# Altium integrated library Altera FLEX 10K.IntLib: 292 symbols (part 16 of 37)
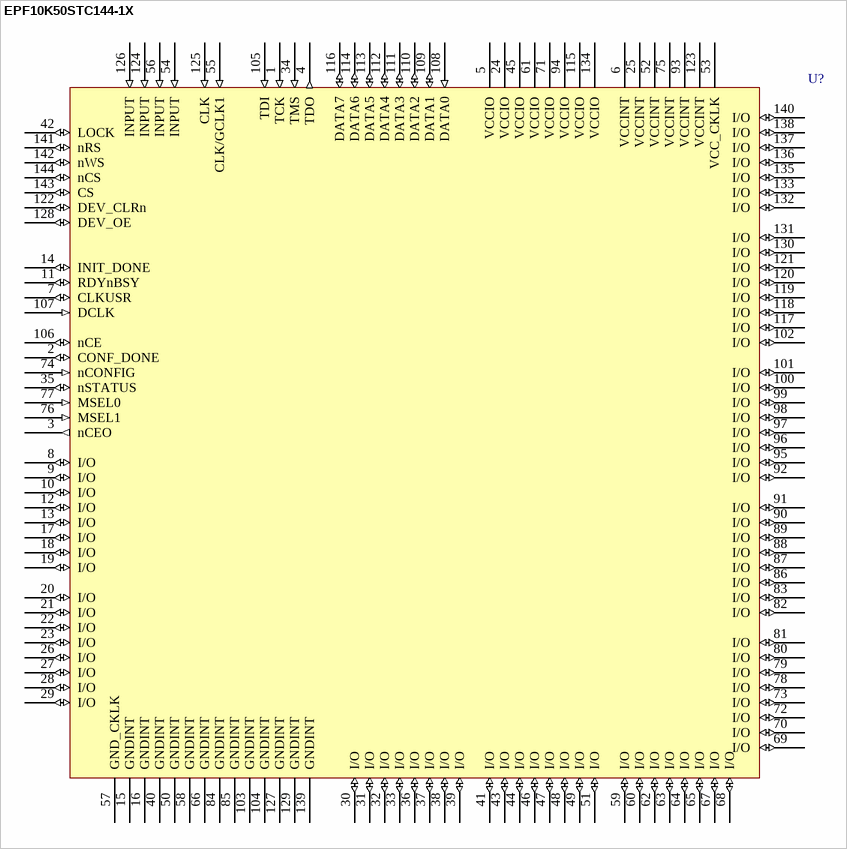
[diagram p413: symbol EPF10K50STC144-1X]

## EPF10K50STC144-1X
designator U?
FLEX EPF10K50S 2.5V Embedded PLD, 102 User IO Pins, 144-Pin TQFP, Speed Grade 1, Commercial Grade; Published: 17-Jul-2002; LatestRevisionDate: 13-Apr-2006; LatestRevisionNote: IPC-7351 Footprint Added.; DatasheetVersion: Jan-2001; PackageVersion: ver15.4, Dec-2008; PackageReference: TQFP144; Publisher: Altium Limited; PackageDescription: 144-Pin Plastic Thin Quad Flat Pack (TQFP144) - Wire Bond; Code_JEDEC: MS-026-BFB; ComponentLink1Description: Manufacturer Link; ComponentLink1URL: http://www.altera.com/products/devices/flex10k/f10-index.html; ComponentLink2Description: Datasheet; ComponentLink2URL: http://www.altera.com/literature/ds/dsf10ke.pdf
footprint TQFP144_N (Thin QFP, 144-Leads, Body 20x20mm, Pitch 0.5mm, IPC Medium Density)
footprint TQFP144_L (Thin QFP, 144-Leads, Body 20x20mm, Pitch 0.5mm, IPC High Density)
footprint TQFP144_M (Thin QFP, 144-Leads, Body 20x20mm, Pitch 0.5mm, IPC Low Density)
3D model EPF10K50S-TQFP144 (144-Pin Plastic Thin Quad Flat Pack (TQFP144) - Wire Bond)
pins: 1 TCK (in), 2 CONF_DONE (io), 3 nCEO (out), 4 TDO (out), 5 VCCIO (power), 6 VCCINT (power), 7 CLKUSR (io), 8 I/O (io), 9 I/O (io), 10 I/O (io), 11 RDYnBSY (io), 12 I/O (io), 13 I/O (io), 14 INIT_DONE (io), 15 GNDINT (power), 16 GNDINT (power), 17 I/O (io), 18 I/O (io), 19 I/O (io), 20 I/O (io), 21 I/O (io), 22 I/O (io), 23 I/O (io), 24 VCCIO (power), 25 VCCINT (power), 26 I/O (io), 27 I/O (io), 28 I/O (io), 29 I/O (io), 30 I/O (io), 31 I/O (io), 32 I/O (io), 33 I/O (io), 34 TMS (in), 35 nSTATUS (io), 36 I/O (io), 37 I/O (io), 38 I/O (io), 39 I/O (io), 40 GNDINT (power), 41 I/O (io), 42 LOCK (io), 43 I/O (io), 44 I/O (io), 45 VCCIO (power), 46 I/O (io), 47 I/O (io), 48 I/O (io), 49 I/O (io), 50 GNDINT (power), 51 I/O (io), 52 VCCINT (power), 53 VCC_CKLK (power), 54 INPUT (in), 55 CLK/GCLK1 (in), 56 INPUT (in), 57 GND_CKLK (power), 58 GNDINT (power), 59 I/O (io), 60 I/O (io), 61 VCCIO (power), 62 I/O (io), 63 I/O (io), 64 I/O (io), 65 I/O (io), 66 GNDINT (power), 67 I/O (io), 68 I/O (io), 69 I/O (io), 70 I/O (io), 71 VCCIO (power), 72 I/O (io), 73 I/O (io), 74 nCONFIG (in), 75 VCCINT (power), 76 MSEL1 (in), 77 MSEL0 (in), 78 I/O (io), 79 I/O (io), 80 I/O (io), 81 I/O (io), 82 I/O (io), 83 I/O (io), 84 GNDINT (power), 85 GNDINT (power), 86 I/O (io), 87 I/O (io), 88 I/O (io), 89 I/O (io), 90 I/O (io), 91 I/O (io), 92 I/O (io), 93 VCCINT (power), 94 VCCIO (power), 95 I/O (io), 96 I/O (io), 97 I/O (io), 98 I/O (io), 99 I/O (io), 100 I/O (io), 101 I/O (io), 102 I/O (io), 103 GNDINT (power), 104 GNDINT (power), 105 TDI (in), 106 nCE (io), 107 DCLK (in), 108 DATA0 (in), 109 DATA1 (io), 110 DATA2 (io), 111 DATA3 (io), 112 DATA4 (io), 113 DATA5 (io), 114 DATA6 (io), 115 VCCIO (power), 116 DATA7 (io), 117 I/O (io), 118 I/O (io), 119 I/O (io), 120 I/O (io), 121 I/O (io), 122 DEV_CLRn (io), 123 VCCINT (power), 124 INPUT (in), 125 CLK (in), 126 INPUT (in), 127 GNDINT (power), 128 DEV_OE (io), 129 GNDINT (power), 130 I/O (io), 131 I/O (io), 132 I/O (io), 133 I/O (io), 134 VCCIO (power), 135 I/O (io), 136 I/O (io), 137 I/O (io), 138 I/O (io), 139 GNDINT (power), 140 I/O (io), 141 nRS (io), 142 nWS (io), 143 CS (io), 144 nCS (io)

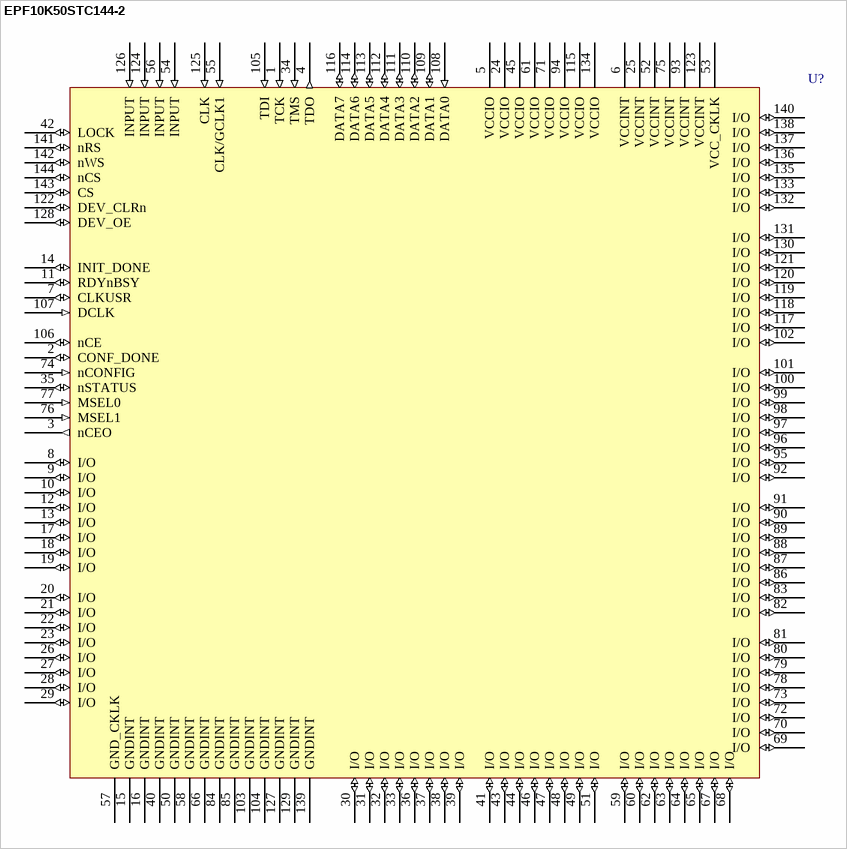
[diagram p156: symbol EPF10K50STC144-2]

## EPF10K50STC144-2
designator U?
FLEX EPF10K50S 2.5V Embedded PLD, 102 User IO Pins, 144-Pin TQFP, Speed Grade 2, Commercial Grade; Published: 17-Jul-2002; LatestRevisionDate: 13-Apr-2006; LatestRevisionNote: IPC-7351 Footprint Added.; DatasheetVersion: Jan-2001; PackageVersion: ver15.4, Dec-2008; PackageReference: TQFP144; Publisher: Altium Limited; PackageDescription: 144-Pin Plastic Thin Quad Flat Pack (TQFP144) - Wire Bond; Code_JEDEC: MS-026-BFB; ComponentLink1Description: Manufacturer Link; ComponentLink1URL: http://www.altera.com/products/devices/flex10k/f10-index.html; ComponentLink2Description: Datasheet; ComponentLink2URL: http://www.altera.com/literature/ds/dsf10ke.pdf
footprint TQFP144_N (Thin QFP, 144-Leads, Body 20x20mm, Pitch 0.5mm, IPC Medium Density)
footprint TQFP144_L (Thin QFP, 144-Leads, Body 20x20mm, Pitch 0.5mm, IPC High Density)
footprint TQFP144_M (Thin QFP, 144-Leads, Body 20x20mm, Pitch 0.5mm, IPC Low Density)
3D model EPF10K50S-TQFP144 (144-Pin Plastic Thin Quad Flat Pack (TQFP144) - Wire Bond)
pins: 1 TCK (in), 2 CONF_DONE (io), 3 nCEO (out), 4 TDO (out), 5 VCCIO (power), 6 VCCINT (power), 7 CLKUSR (io), 8 I/O (io), 9 I/O (io), 10 I/O (io), 11 RDYnBSY (io), 12 I/O (io), 13 I/O (io), 14 INIT_DONE (io), 15 GNDINT (power), 16 GNDINT (power), 17 I/O (io), 18 I/O (io), 19 I/O (io), 20 I/O (io), 21 I/O (io), 22 I/O (io), 23 I/O (io), 24 VCCIO (power), 25 VCCINT (power), 26 I/O (io), 27 I/O (io), 28 I/O (io), 29 I/O (io), 30 I/O (io), 31 I/O (io), 32 I/O (io), 33 I/O (io), 34 TMS (in), 35 nSTATUS (io), 36 I/O (io), 37 I/O (io), 38 I/O (io), 39 I/O (io), 40 GNDINT (power), 41 I/O (io), 42 LOCK (io), 43 I/O (io), 44 I/O (io), 45 VCCIO (power), 46 I/O (io), 47 I/O (io), 48 I/O (io), 49 I/O (io), 50 GNDINT (power), 51 I/O (io), 52 VCCINT (power), 53 VCC_CKLK (power), 54 INPUT (in), 55 CLK/GCLK1 (in), 56 INPUT (in), 57 GND_CKLK (power), 58 GNDINT (power), 59 I/O (io), 60 I/O (io), 61 VCCIO (power), 62 I/O (io), 63 I/O (io), 64 I/O (io), 65 I/O (io), 66 GNDINT (power), 67 I/O (io), 68 I/O (io), 69 I/O (io), 70 I/O (io), 71 VCCIO (power), 72 I/O (io), 73 I/O (io), 74 nCONFIG (in), 75 VCCINT (power), 76 MSEL1 (in), 77 MSEL0 (in), 78 I/O (io), 79 I/O (io), 80 I/O (io), 81 I/O (io), 82 I/O (io), 83 I/O (io), 84 GNDINT (power), 85 GNDINT (power), 86 I/O (io), 87 I/O (io), 88 I/O (io), 89 I/O (io), 90 I/O (io), 91 I/O (io), 92 I/O (io), 93 VCCINT (power), 94 VCCIO (power), 95 I/O (io), 96 I/O (io), 97 I/O (io), 98 I/O (io), 99 I/O (io), 100 I/O (io), 101 I/O (io), 102 I/O (io), 103 GNDINT (power), 104 GNDINT (power), 105 TDI (in), 106 nCE (io), 107 DCLK (in), 108 DATA0 (in), 109 DATA1 (io), 110 DATA2 (io), 111 DATA3 (io), 112 DATA4 (io), 113 DATA5 (io), 114 DATA6 (io), 115 VCCIO (power), 116 DATA7 (io), 117 I/O (io), 118 I/O (io), 119 I/O (io), 120 I/O (io), 121 I/O (io), 122 DEV_CLRn (io), 123 VCCINT (power), 124 INPUT (in), 125 CLK (in), 126 INPUT (in), 127 GNDINT (power), 128 DEV_OE (io), 129 GNDINT (power), 130 I/O (io), 131 I/O (io), 132 I/O (io), 133 I/O (io), 134 VCCIO (power), 135 I/O (io), 136 I/O (io), 137 I/O (io), 138 I/O (io), 139 GNDINT (power), 140 I/O (io), 141 nRS (io), 142 nWS (io), 143 CS (io), 144 nCS (io)

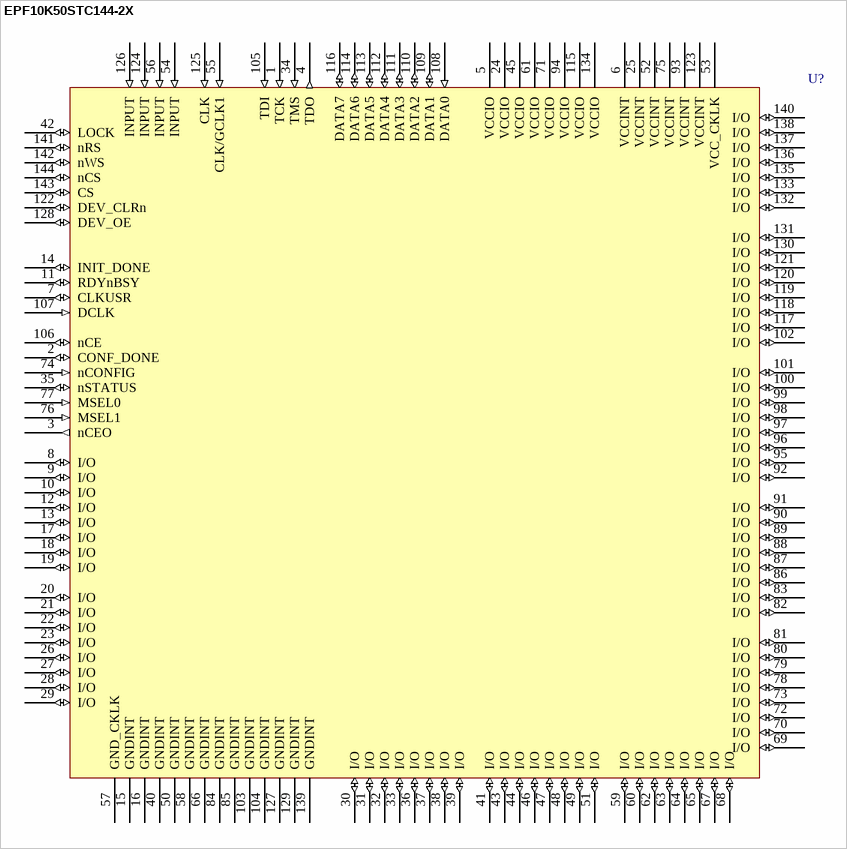
[diagram p157: symbol EPF10K50STC144-2X]

## EPF10K50STC144-2X
designator U?
FLEX EPF10K50S 2.5V Embedded PLD, 102 User IO Pins, 144-Pin TQFP, Speed Grade 2, Commercial Grade; Published: 17-Jul-2002; LatestRevisionDate: 13-Apr-2006; LatestRevisionNote: IPC-7351 Footprint Added.; DatasheetVersion: Jan-2001; PackageVersion: ver15.4, Dec-2008; PackageReference: TQFP144; Publisher: Altium Limited; PackageDescription: 144-Pin Plastic Thin Quad Flat Pack (TQFP144) - Wire Bond; Code_JEDEC: MS-026-BFB; ComponentLink1Description: Manufacturer Link; ComponentLink1URL: http://www.altera.com/products/devices/flex10k/f10-index.html; ComponentLink2Description: Datasheet; ComponentLink2URL: http://www.altera.com/literature/ds/dsf10ke.pdf
footprint TQFP144_N (Thin QFP, 144-Leads, Body 20x20mm, Pitch 0.5mm, IPC Medium Density)
footprint TQFP144_L (Thin QFP, 144-Leads, Body 20x20mm, Pitch 0.5mm, IPC High Density)
footprint TQFP144_M (Thin QFP, 144-Leads, Body 20x20mm, Pitch 0.5mm, IPC Low Density)
3D model EPF10K50S-TQFP144 (144-Pin Plastic Thin Quad Flat Pack (TQFP144) - Wire Bond)
pins: 1 TCK (in), 2 CONF_DONE (io), 3 nCEO (out), 4 TDO (out), 5 VCCIO (power), 6 VCCINT (power), 7 CLKUSR (io), 8 I/O (io), 9 I/O (io), 10 I/O (io), 11 RDYnBSY (io), 12 I/O (io), 13 I/O (io), 14 INIT_DONE (io), 15 GNDINT (power), 16 GNDINT (power), 17 I/O (io), 18 I/O (io), 19 I/O (io), 20 I/O (io), 21 I/O (io), 22 I/O (io), 23 I/O (io), 24 VCCIO (power), 25 VCCINT (power), 26 I/O (io), 27 I/O (io), 28 I/O (io), 29 I/O (io), 30 I/O (io), 31 I/O (io), 32 I/O (io), 33 I/O (io), 34 TMS (in), 35 nSTATUS (io), 36 I/O (io), 37 I/O (io), 38 I/O (io), 39 I/O (io), 40 GNDINT (power), 41 I/O (io), 42 LOCK (io), 43 I/O (io), 44 I/O (io), 45 VCCIO (power), 46 I/O (io), 47 I/O (io), 48 I/O (io), 49 I/O (io), 50 GNDINT (power), 51 I/O (io), 52 VCCINT (power), 53 VCC_CKLK (power), 54 INPUT (in), 55 CLK/GCLK1 (in), 56 INPUT (in), 57 GND_CKLK (power), 58 GNDINT (power), 59 I/O (io), 60 I/O (io), 61 VCCIO (power), 62 I/O (io), 63 I/O (io), 64 I/O (io), 65 I/O (io), 66 GNDINT (power), 67 I/O (io), 68 I/O (io), 69 I/O (io), 70 I/O (io), 71 VCCIO (power), 72 I/O (io), 73 I/O (io), 74 nCONFIG (in), 75 VCCINT (power), 76 MSEL1 (in), 77 MSEL0 (in), 78 I/O (io), 79 I/O (io), 80 I/O (io), 81 I/O (io), 82 I/O (io), 83 I/O (io), 84 GNDINT (power), 85 GNDINT (power), 86 I/O (io), 87 I/O (io), 88 I/O (io), 89 I/O (io), 90 I/O (io), 91 I/O (io), 92 I/O (io), 93 VCCINT (power), 94 VCCIO (power), 95 I/O (io), 96 I/O (io), 97 I/O (io), 98 I/O (io), 99 I/O (io), 100 I/O (io), 101 I/O (io), 102 I/O (io), 103 GNDINT (power), 104 GNDINT (power), 105 TDI (in), 106 nCE (io), 107 DCLK (in), 108 DATA0 (in), 109 DATA1 (io), 110 DATA2 (io), 111 DATA3 (io), 112 DATA4 (io), 113 DATA5 (io), 114 DATA6 (io), 115 VCCIO (power), 116 DATA7 (io), 117 I/O (io), 118 I/O (io), 119 I/O (io), 120 I/O (io), 121 I/O (io), 122 DEV_CLRn (io), 123 VCCINT (power), 124 INPUT (in), 125 CLK (in), 126 INPUT (in), 127 GNDINT (power), 128 DEV_OE (io), 129 GNDINT (power), 130 I/O (io), 131 I/O (io), 132 I/O (io), 133 I/O (io), 134 VCCIO (power), 135 I/O (io), 136 I/O (io), 137 I/O (io), 138 I/O (io), 139 GNDINT (power), 140 I/O (io), 141 nRS (io), 142 nWS (io), 143 CS (io), 144 nCS (io)

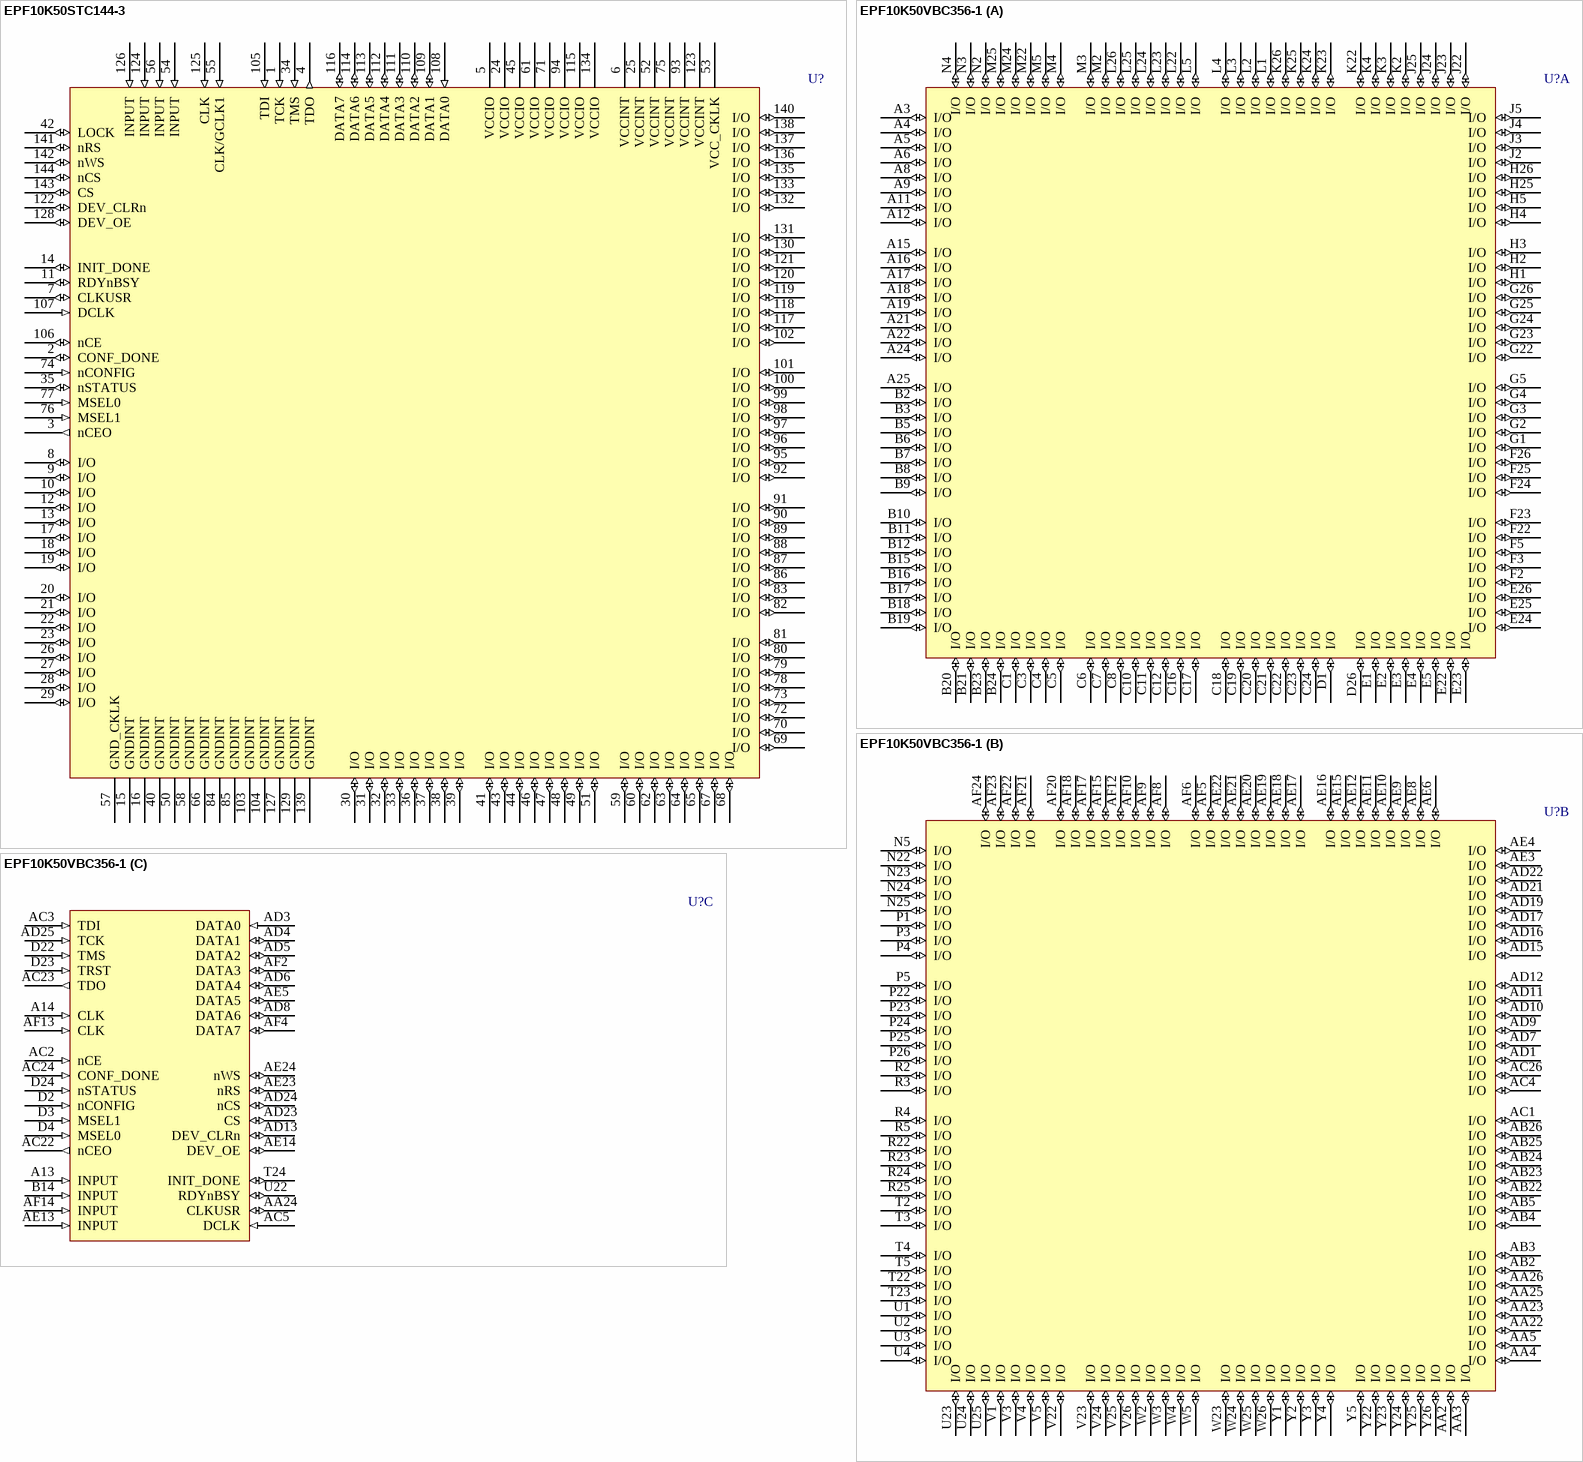
[diagram p158: symbols EPF10K50STC144-3 to EPF10K50VBC356-1]

## EPF10K50STC144-3
designator U?
FLEX EPF10K50S 2.5V Embedded PLD, 102 User IO Pins, 144-Pin TQFP, Speed Grade 3, Commercial Grade; Published: 17-Jul-2002; LatestRevisionDate: 13-Apr-2006; LatestRevisionNote: IPC-7351 Footprint Added.; DatasheetVersion: Jan-2001; PackageVersion: ver15.4, Dec-2008; PackageReference: TQFP144; Publisher: Altium Limited; PackageDescription: 144-Pin Plastic Thin Quad Flat Pack (TQFP144) - Wire Bond; Code_JEDEC: MS-026-BFB; ComponentLink1Description: Manufacturer Link; ComponentLink1URL: http://www.altera.com/products/devices/flex10k/f10-index.html; ComponentLink2Description: Datasheet; ComponentLink2URL: http://www.altera.com/literature/ds/dsf10ke.pdf
footprint TQFP144_N (Thin QFP, 144-Leads, Body 20x20mm, Pitch 0.5mm, IPC Medium Density)
footprint TQFP144_L (Thin QFP, 144-Leads, Body 20x20mm, Pitch 0.5mm, IPC High Density)
footprint TQFP144_M (Thin QFP, 144-Leads, Body 20x20mm, Pitch 0.5mm, IPC Low Density)
3D model EPF10K50S-TQFP144 (144-Pin Plastic Thin Quad Flat Pack (TQFP144) - Wire Bond)
pins: 1 TCK (in), 2 CONF_DONE (io), 3 nCEO (out), 4 TDO (out), 5 VCCIO (power), 6 VCCINT (power), 7 CLKUSR (io), 8 I/O (io), 9 I/O (io), 10 I/O (io), 11 RDYnBSY (io), 12 I/O (io), 13 I/O (io), 14 INIT_DONE (io), 15 GNDINT (power), 16 GNDINT (power), 17 I/O (io), 18 I/O (io), 19 I/O (io), 20 I/O (io), 21 I/O (io), 22 I/O (io), 23 I/O (io), 24 VCCIO (power), 25 VCCINT (power), 26 I/O (io), 27 I/O (io), 28 I/O (io), 29 I/O (io), 30 I/O (io), 31 I/O (io), 32 I/O (io), 33 I/O (io), 34 TMS (in), 35 nSTATUS (io), 36 I/O (io), 37 I/O (io), 38 I/O (io), 39 I/O (io), 40 GNDINT (power), 41 I/O (io), 42 LOCK (io), 43 I/O (io), 44 I/O (io), 45 VCCIO (power), 46 I/O (io), 47 I/O (io), 48 I/O (io), 49 I/O (io), 50 GNDINT (power), 51 I/O (io), 52 VCCINT (power), 53 VCC_CKLK (power), 54 INPUT (in), 55 CLK/GCLK1 (in), 56 INPUT (in), 57 GND_CKLK (power), 58 GNDINT (power), 59 I/O (io), 60 I/O (io), 61 VCCIO (power), 62 I/O (io), 63 I/O (io), 64 I/O (io), 65 I/O (io), 66 GNDINT (power), 67 I/O (io), 68 I/O (io), 69 I/O (io), 70 I/O (io), 71 VCCIO (power), 72 I/O (io), 73 I/O (io), 74 nCONFIG (in), 75 VCCINT (power), 76 MSEL1 (in), 77 MSEL0 (in), 78 I/O (io), 79 I/O (io), 80 I/O (io), 81 I/O (io), 82 I/O (io), 83 I/O (io), 84 GNDINT (power), 85 GNDINT (power), 86 I/O (io), 87 I/O (io), 88 I/O (io), 89 I/O (io), 90 I/O (io), 91 I/O (io), 92 I/O (io), 93 VCCINT (power), 94 VCCIO (power), 95 I/O (io), 96 I/O (io), 97 I/O (io), 98 I/O (io), 99 I/O (io), 100 I/O (io), 101 I/O (io), 102 I/O (io), 103 GNDINT (power), 104 GNDINT (power), 105 TDI (in), 106 nCE (io), 107 DCLK (in), 108 DATA0 (in), 109 DATA1 (io), 110 DATA2 (io), 111 DATA3 (io), 112 DATA4 (io), 113 DATA5 (io), 114 DATA6 (io), 115 VCCIO (power), 116 DATA7 (io), 117 I/O (io), 118 I/O (io), 119 I/O (io), 120 I/O (io), 121 I/O (io), 122 DEV_CLRn (io), 123 VCCINT (power), 124 INPUT (in), 125 CLK (in), 126 INPUT (in), 127 GNDINT (power), 128 DEV_OE (io), 129 GNDINT (power), 130 I/O (io), 131 I/O (io), 132 I/O (io), 133 I/O (io), 134 VCCIO (power), 135 I/O (io), 136 I/O (io), 137 I/O (io), 138 I/O (io), 139 GNDINT (power), 140 I/O (io), 141 nRS (io), 142 nWS (io), 143 CS (io), 144 nCS (io)

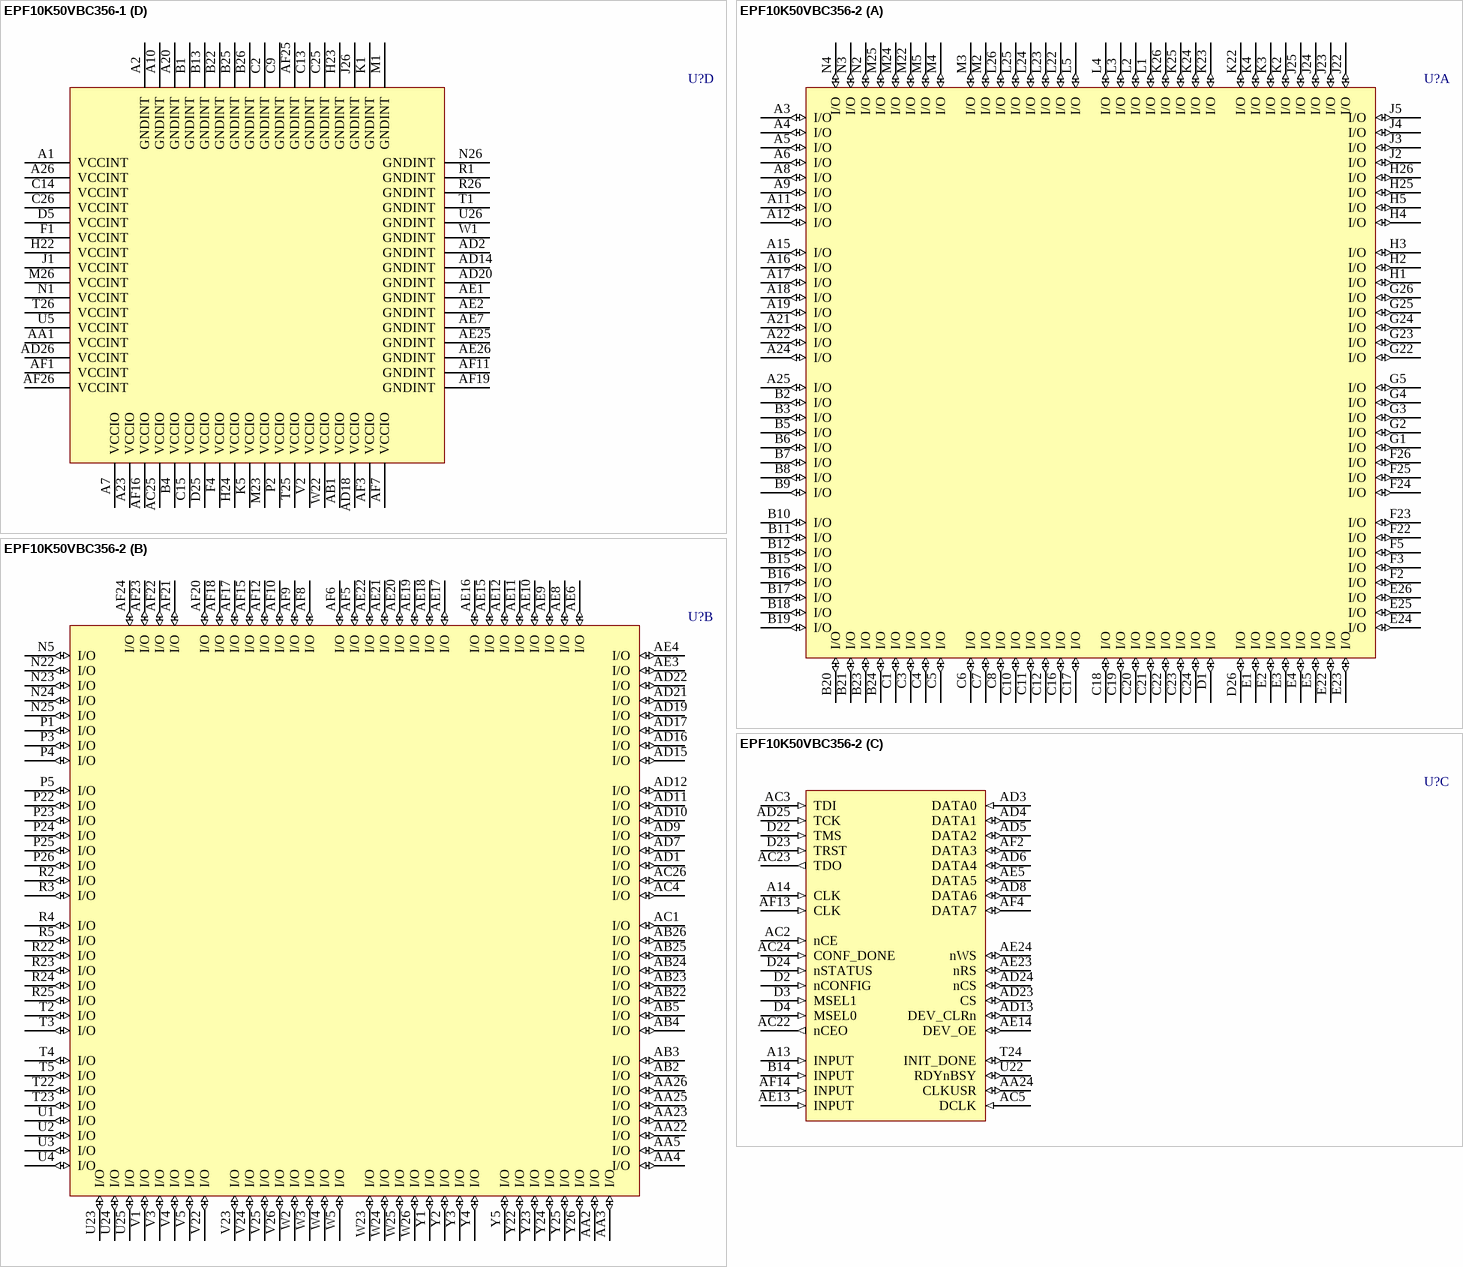
[diagram p159: symbols EPF10K50VBC356-1 to EPF10K50VBC356-2]

## EPF10K50VBC356-1
designator U?
FLEX EPF10K50V 3.3V Embedded PLD, 274 User IO Pins, 356-Pin BGA, Speed Grade 1, Commercial Grade; Published: 17-Jul-2002; LatestRevisionDate: 13-Apr-2006; LatestRevisionNote: IPC-7351 Footprint Added.; DatasheetVersion: ver4.2, Jan-2003; PackageVersion: ver14.2, Oct-2005; PackageReference: BGA356; Publisher: Altium Limited; PackageDescription: 356-Ball Ball Grid Array (BGA356); Code_JEDEC: MO-192-BAR-2; ComponentLink1Description: Manufacturer Link; ComponentLink1URL: http://www.altera.com/products/devices/flex10k/f10-index.html; ComponentLink2Description: Datasheet; ComponentLink2URL: http://www.altera.com/literature/ds/dsf10k.pdf
footprint BGA356 (BGA, 356-Leads, Body 35x35mm, Pitch 1.27mm)
3D model EPF10K50V-BGA356 (356-Ball Ball Grid Array (BGA356))
part A pins: A3 I/O (io), A4 I/O (io), A5 I/O (io), A6 I/O (io), A8 I/O (io), A9 I/O (io), A11 I/O (io), A12 I/O (io), A15 I/O (io), A16 I/O (io), A17 I/O (io), A18 I/O (io), A19 I/O (io), A21 I/O (io), A22 I/O (io), A24 I/O (io), A25 I/O (io), B2 I/O (io), B3 I/O (io), B5 I/O (io), B6 I/O (io), B7 I/O (io), B8 I/O (io), B9 I/O (io), B10 I/O (io), B11 I/O (io), B12 I/O (io), B15 I/O (io), B16 I/O (io), B17 I/O (io), B18 I/O (io), B19 I/O (io), B20 I/O (io), B21 I/O (io), B23 I/O (io), B24 I/O (io), C1 I/O (io), C3 I/O (io), C4 I/O (io), C5 I/O (io), C6 I/O (io), C7 I/O (io), C8 I/O (io), C10 I/O (io), C11 I/O (io), C12 I/O (io), C16 I/O (io), C17 I/O (io), C18 I/O (io), C19 I/O (io), C20 I/O (io), C21 I/O (io), C22 I/O (io), C23 I/O (io), C24 I/O (io), D1 I/O (io), D26 I/O (io), E1 I/O (io), E2 I/O (io), E3 I/O (io), E4 I/O (io), E5 I/O (io), E22 I/O (io), E23 I/O (io), E24 I/O (io), E25 I/O (io), E26 I/O (io), F2 I/O (io), F3 I/O (io), F5 I/O (io), F22 I/O (io), F23 I/O (io), F24 I/O (io), F25 I/O (io), F26 I/O (io), G1 I/O (io), G2 I/O (io), G3 I/O (io), G4 I/O (io), G5 I/O (io), G22 I/O (io), G23 I/O (io), G24 I/O (io), G25 I/O (io), G26 I/O (io), H1 I/O (io), H2 I/O (io), H3 I/O (io), H4 I/O (io), H5 I/O (io), H25 I/O (io), H26 I/O (io), J2 I/O (io), J3 I/O (io), J4 I/O (io), J5 I/O (io), J22 I/O (io), J23 I/O (io), J24 I/O (io), J25 I/O (io), K2 I/O (io), K3 I/O (io), K4 I/O (io), K22 I/O (io), K23 I/O (io), K24 I/O (io), K25 I/O (io), K26 I/O (io), L1 I/O (io), L2 I/O (io), L3 I/O (io), L4 I/O (io), L5 I/O (io), L22 I/O (io), L23 I/O (io), L24 I/O (io), L25 I/O (io), L26 I/O (io), M2 I/O (io), M3 I/O (io), M4 I/O (io), M5 I/O (io), M22 I/O (io), M24 I/O (io), M25 I/O (io), N2 I/O (io), N3 I/O (io), N4 I/O (io)
part B pins: AA2 I/O (io), AA3 I/O (io), AA4 I/O (io), AA5 I/O (io), AA22 I/O (io), AA23 I/O (io), AA25 I/O (io), AA26 I/O (io), AB2 I/O (io), AB3 I/O (io), AB4 I/O (io), AB5 I/O (io), AB22 I/O (io), AB23 I/O (io), AB24 I/O (io), AB25 I/O (io), AB26 I/O (io), AC1 I/O (io), AC4 I/O (io), AC26 I/O (io), AD1 I/O (io), AD7 I/O (io), AD9 I/O (io), AD10 I/O (io), AD11 I/O (io), AD12 I/O (io), AD15 I/O (io), AD16 I/O (io), AD17 I/O (io), AD19 I/O (io), AD21 I/O (io), AD22 I/O (io), AE3 I/O (io), AE4 I/O (io), AE6 I/O (io), AE8 I/O (io), AE9 I/O (io), AE10 I/O (io), AE11 I/O (io), AE12 I/O (io), AE15 I/O (io), AE16 I/O (io), AE17 I/O (io), AE18 I/O (io), AE19 I/O (io), AE20 I/O (io), AE21 I/O (io), AE22 I/O (io), AF5 I/O (io), AF6 I/O (io), AF8 I/O (io), AF9 I/O (io), AF10 I/O (io), AF12 I/O (io), AF15 I/O (io), AF17 I/O (io), AF18 I/O (io), AF20 I/O (io), AF21 I/O (io), AF22 I/O (io), AF23 I/O (io), AF24 I/O (io), N5 I/O (io), N22 I/O (io), N23 I/O (io), N24 I/O (io), N25 I/O (io), P1 I/O (io), P3 I/O (io), P4 I/O (io), P5 I/O (io), P22 I/O (io), P23 I/O (io), P24 I/O (io), P25 I/O (io), P26 I/O (io), R2 I/O (io), R3 I/O (io), R4 I/O (io), R5 I/O (io), R22 I/O (io), R23 I/O (io), R24 I/O (io), R25 I/O (io), T2 I/O (io), T3 I/O (io), T4 I/O (io), T5 I/O (io), T22 I/O (io), T23 I/O (io), U1 I/O (io), U2 I/O (io), U3 I/O (io), U4 I/O (io), U23 I/O (io), U24 I/O (io), U25 I/O (io), V1 I/O (io), V3 I/O (io), V4 I/O (io), V5 I/O (io), V22 I/O (io), V23 I/O (io), V24 I/O (io), V25 I/O (io), V26 I/O (io), W2 I/O (io), W3 I/O (io), W4 I/O (io), W5 I/O (io), W23 I/O (io), W24 I/O (io), W25 I/O (io), W26 I/O (io), Y1 I/O (io), Y2 I/O (io), Y3 I/O (io), Y4 I/O (io), Y5 I/O (io), Y22 I/O (io), Y23 I/O (io), Y24 I/O (io), Y25 I/O (io), Y26 I/O (io)
part C pins: A13 INPUT (in), A14 CLK (in), AA24 CLKUSR (io), AC2 nCE (in), AC3 TDI (in), AC5 DCLK (in), AC22 nCEO (out), AC23 TDO (out), AC24 CONF_DONE (in), AD3 DATA0 (in), AD4 DATA1 (io), AD5 DATA2 (io), AD6 DATA4 (io), AD8 DATA6 (io), AD13 DEV_CLRn (io), AD23 CS (io), AD24 nCS (io), AD25 TCK (in), AE5 DATA5 (io), AE13 INPUT (in), AE14 DEV_OE (io), AE23 nRS (io), AE24 nWS (io), AF2 DATA3 (io), AF4 DATA7 (io), AF13 CLK (in), AF14 INPUT (in), B14 INPUT (in), D2 nCONFIG (in), D3 MSEL1 (in), D4 MSEL0 (in), D22 TMS (in), D23 TRST (in), D24 nSTATUS (in), T24 INIT_DONE (io), U22 RDYnBSY (io)
part D pins: A1 VCCINT (power), A2 GNDINT (power), A7 VCCIO (power), A10 GNDINT (power), A20 GNDINT (power), A23 VCCIO (power), A26 VCCINT (power), AA1 VCCINT (power), AB1 VCCIO (power), AC25 VCCIO (power), AD2 GNDINT (power), AD14 GNDINT (power), AD18 VCCIO (power), AD20 GNDINT (power), AD26 VCCINT (power), AE1 GNDINT (power), AE2 GNDINT (power), AE7 GNDINT (power), AE25 GNDINT (power), AE26 GNDINT (power), AF1 VCCINT (power), AF3 VCCIO (power), AF7 VCCIO (power), AF11 GNDINT (power), AF16 VCCIO (power), AF19 GNDINT (power), AF25 GNDINT (power), AF26 VCCINT (power), B1 GNDINT (power), B4 VCCIO (power), B13 GNDINT (power), B22 GNDINT (power), B25 GNDINT (power), B26 GNDINT (power), C2 GNDINT (power), C9 GNDINT (power), C13 GNDINT (power), C14 VCCINT (power), C15 VCCIO (power), C25 GNDINT (power), C26 VCCINT (power), D5 VCCINT (power), D25 VCCIO (power), F1 VCCINT (power), F4 VCCIO (power), H22 VCCINT (power), H23 GNDINT (power), H24 VCCIO (power), J1 VCCINT (power), J26 GNDINT (power), K1 GNDINT (power), K5 VCCIO (power), M1 GNDINT (power), M23 VCCIO (power), M26 VCCINT (power), N1 VCCINT (power), N26 GNDINT (power), P2 VCCIO (power), R1 GNDINT (power), R26 GNDINT (power), T1 GNDINT (power), T25 VCCIO (power), T26 VCCINT (power), U5 VCCINT (power), U26 GNDINT (power), V2 VCCIO (power), W1 GNDINT (power), W22 VCCIO (power)

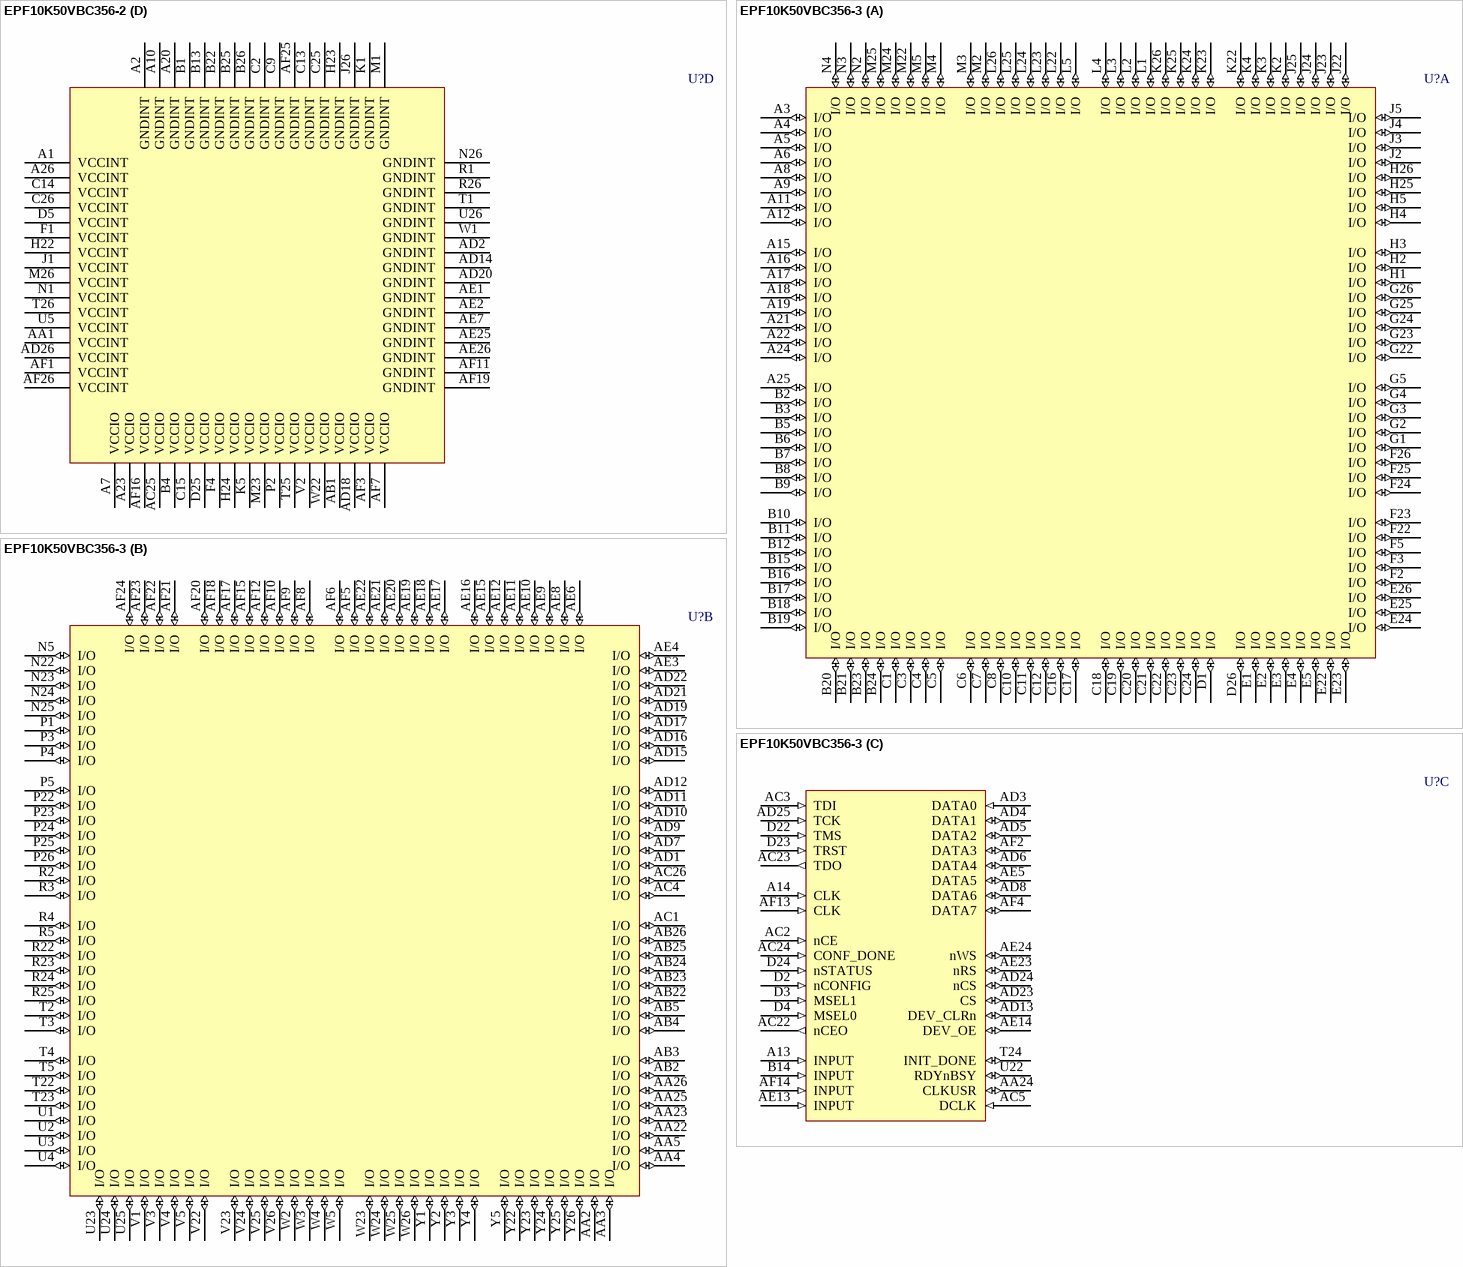
[diagram p160: symbols EPF10K50VBC356-2 to EPF10K50VBC356-3]

## EPF10K50VBC356-2
designator U?
FLEX EPF10K50V 3.3V Embedded PLD, 274 User IO Pins, 356-Pin BGA, Speed Grade 2, Commercial Grade; Published: 17-Jul-2002; LatestRevisionDate: 13-Apr-2006; LatestRevisionNote: IPC-7351 Footprint Added.; DatasheetVersion: ver4.2, Jan-2003; PackageVersion: ver14.2, Oct-2005; PackageReference: BGA356; Publisher: Altium Limited; PackageDescription: 356-Ball Ball Grid Array (BGA356); Code_JEDEC: MO-192-BAR-2; ComponentLink1Description: Manufacturer Link; ComponentLink1URL: http://www.altera.com/products/devices/flex10k/f10-index.html; ComponentLink2Description: Datasheet; ComponentLink2URL: http://www.altera.com/literature/ds/dsf10k.pdf
footprint BGA356 (BGA, 356-Leads, Body 35x35mm, Pitch 1.27mm)
3D model EPF10K50V-BGA356 (356-Ball Ball Grid Array (BGA356))
part A pins: A3 I/O (io), A4 I/O (io), A5 I/O (io), A6 I/O (io), A8 I/O (io), A9 I/O (io), A11 I/O (io), A12 I/O (io), A15 I/O (io), A16 I/O (io), A17 I/O (io), A18 I/O (io), A19 I/O (io), A21 I/O (io), A22 I/O (io), A24 I/O (io), A25 I/O (io), B2 I/O (io), B3 I/O (io), B5 I/O (io), B6 I/O (io), B7 I/O (io), B8 I/O (io), B9 I/O (io), B10 I/O (io), B11 I/O (io), B12 I/O (io), B15 I/O (io), B16 I/O (io), B17 I/O (io), B18 I/O (io), B19 I/O (io), B20 I/O (io), B21 I/O (io), B23 I/O (io), B24 I/O (io), C1 I/O (io), C3 I/O (io), C4 I/O (io), C5 I/O (io), C6 I/O (io), C7 I/O (io), C8 I/O (io), C10 I/O (io), C11 I/O (io), C12 I/O (io), C16 I/O (io), C17 I/O (io), C18 I/O (io), C19 I/O (io), C20 I/O (io), C21 I/O (io), C22 I/O (io), C23 I/O (io), C24 I/O (io), D1 I/O (io), D26 I/O (io), E1 I/O (io), E2 I/O (io), E3 I/O (io), E4 I/O (io), E5 I/O (io), E22 I/O (io), E23 I/O (io), E24 I/O (io), E25 I/O (io), E26 I/O (io), F2 I/O (io), F3 I/O (io), F5 I/O (io), F22 I/O (io), F23 I/O (io), F24 I/O (io), F25 I/O (io), F26 I/O (io), G1 I/O (io), G2 I/O (io), G3 I/O (io), G4 I/O (io), G5 I/O (io), G22 I/O (io), G23 I/O (io), G24 I/O (io), G25 I/O (io), G26 I/O (io), H1 I/O (io), H2 I/O (io), H3 I/O (io), H4 I/O (io), H5 I/O (io), H25 I/O (io), H26 I/O (io), J2 I/O (io), J3 I/O (io), J4 I/O (io), J5 I/O (io), J22 I/O (io), J23 I/O (io), J24 I/O (io), J25 I/O (io), K2 I/O (io), K3 I/O (io), K4 I/O (io), K22 I/O (io), K23 I/O (io), K24 I/O (io), K25 I/O (io), K26 I/O (io), L1 I/O (io), L2 I/O (io), L3 I/O (io), L4 I/O (io), L5 I/O (io), L22 I/O (io), L23 I/O (io), L24 I/O (io), L25 I/O (io), L26 I/O (io), M2 I/O (io), M3 I/O (io), M4 I/O (io), M5 I/O (io), M22 I/O (io), M24 I/O (io), M25 I/O (io), N2 I/O (io), N3 I/O (io), N4 I/O (io)
part B pins: AA2 I/O (io), AA3 I/O (io), AA4 I/O (io), AA5 I/O (io), AA22 I/O (io), AA23 I/O (io), AA25 I/O (io), AA26 I/O (io), AB2 I/O (io), AB3 I/O (io), AB4 I/O (io), AB5 I/O (io), AB22 I/O (io), AB23 I/O (io), AB24 I/O (io), AB25 I/O (io), AB26 I/O (io), AC1 I/O (io), AC4 I/O (io), AC26 I/O (io), AD1 I/O (io), AD7 I/O (io), AD9 I/O (io), AD10 I/O (io), AD11 I/O (io), AD12 I/O (io), AD15 I/O (io), AD16 I/O (io), AD17 I/O (io), AD19 I/O (io), AD21 I/O (io), AD22 I/O (io), AE3 I/O (io), AE4 I/O (io), AE6 I/O (io), AE8 I/O (io), AE9 I/O (io), AE10 I/O (io), AE11 I/O (io), AE12 I/O (io), AE15 I/O (io), AE16 I/O (io), AE17 I/O (io), AE18 I/O (io), AE19 I/O (io), AE20 I/O (io), AE21 I/O (io), AE22 I/O (io), AF5 I/O (io), AF6 I/O (io), AF8 I/O (io), AF9 I/O (io), AF10 I/O (io), AF12 I/O (io), AF15 I/O (io), AF17 I/O (io), AF18 I/O (io), AF20 I/O (io), AF21 I/O (io), AF22 I/O (io), AF23 I/O (io), AF24 I/O (io), N5 I/O (io), N22 I/O (io), N23 I/O (io), N24 I/O (io), N25 I/O (io), P1 I/O (io), P3 I/O (io), P4 I/O (io), P5 I/O (io), P22 I/O (io), P23 I/O (io), P24 I/O (io), P25 I/O (io), P26 I/O (io), R2 I/O (io), R3 I/O (io), R4 I/O (io), R5 I/O (io), R22 I/O (io), R23 I/O (io), R24 I/O (io), R25 I/O (io), T2 I/O (io), T3 I/O (io), T4 I/O (io), T5 I/O (io), T22 I/O (io), T23 I/O (io), U1 I/O (io), U2 I/O (io), U3 I/O (io), U4 I/O (io), U23 I/O (io), U24 I/O (io), U25 I/O (io), V1 I/O (io), V3 I/O (io), V4 I/O (io), V5 I/O (io), V22 I/O (io), V23 I/O (io), V24 I/O (io), V25 I/O (io), V26 I/O (io), W2 I/O (io), W3 I/O (io), W4 I/O (io), W5 I/O (io), W23 I/O (io), W24 I/O (io), W25 I/O (io), W26 I/O (io), Y1 I/O (io), Y2 I/O (io), Y3 I/O (io), Y4 I/O (io), Y5 I/O (io), Y22 I/O (io), Y23 I/O (io), Y24 I/O (io), Y25 I/O (io), Y26 I/O (io)
part C pins: A13 INPUT (in), A14 CLK (in), AA24 CLKUSR (io), AC2 nCE (in), AC3 TDI (in), AC5 DCLK (in), AC22 nCEO (out), AC23 TDO (out), AC24 CONF_DONE (in), AD3 DATA0 (in), AD4 DATA1 (io), AD5 DATA2 (io), AD6 DATA4 (io), AD8 DATA6 (io), AD13 DEV_CLRn (io), AD23 CS (io), AD24 nCS (io), AD25 TCK (in), AE5 DATA5 (io), AE13 INPUT (in), AE14 DEV_OE (io), AE23 nRS (io), AE24 nWS (io), AF2 DATA3 (io), AF4 DATA7 (io), AF13 CLK (in), AF14 INPUT (in), B14 INPUT (in), D2 nCONFIG (in), D3 MSEL1 (in), D4 MSEL0 (in), D22 TMS (in), D23 TRST (in), D24 nSTATUS (in), T24 INIT_DONE (io), U22 RDYnBSY (io)
part D pins: A1 VCCINT (power), A2 GNDINT (power), A7 VCCIO (power), A10 GNDINT (power), A20 GNDINT (power), A23 VCCIO (power), A26 VCCINT (power), AA1 VCCINT (power), AB1 VCCIO (power), AC25 VCCIO (power), AD2 GNDINT (power), AD14 GNDINT (power), AD18 VCCIO (power), AD20 GNDINT (power), AD26 VCCINT (power), AE1 GNDINT (power), AE2 GNDINT (power), AE7 GNDINT (power), AE25 GNDINT (power), AE26 GNDINT (power), AF1 VCCINT (power), AF3 VCCIO (power), AF7 VCCIO (power), AF11 GNDINT (power), AF16 VCCIO (power), AF19 GNDINT (power), AF25 GNDINT (power), AF26 VCCINT (power), B1 GNDINT (power), B4 VCCIO (power), B13 GNDINT (power), B22 GNDINT (power), B25 GNDINT (power), B26 GNDINT (power), C2 GNDINT (power), C9 GNDINT (power), C13 GNDINT (power), C14 VCCINT (power), C15 VCCIO (power), C25 GNDINT (power), C26 VCCINT (power), D5 VCCINT (power), D25 VCCIO (power), F1 VCCINT (power), F4 VCCIO (power), H22 VCCINT (power), H23 GNDINT (power), H24 VCCIO (power), J1 VCCINT (power), J26 GNDINT (power), K1 GNDINT (power), K5 VCCIO (power), M1 GNDINT (power), M23 VCCIO (power), M26 VCCINT (power), N1 VCCINT (power), N26 GNDINT (power), P2 VCCIO (power), R1 GNDINT (power), R26 GNDINT (power), T1 GNDINT (power), T25 VCCIO (power), T26 VCCINT (power), U5 VCCINT (power), U26 GNDINT (power), V2 VCCIO (power), W1 GNDINT (power), W22 VCCIO (power)

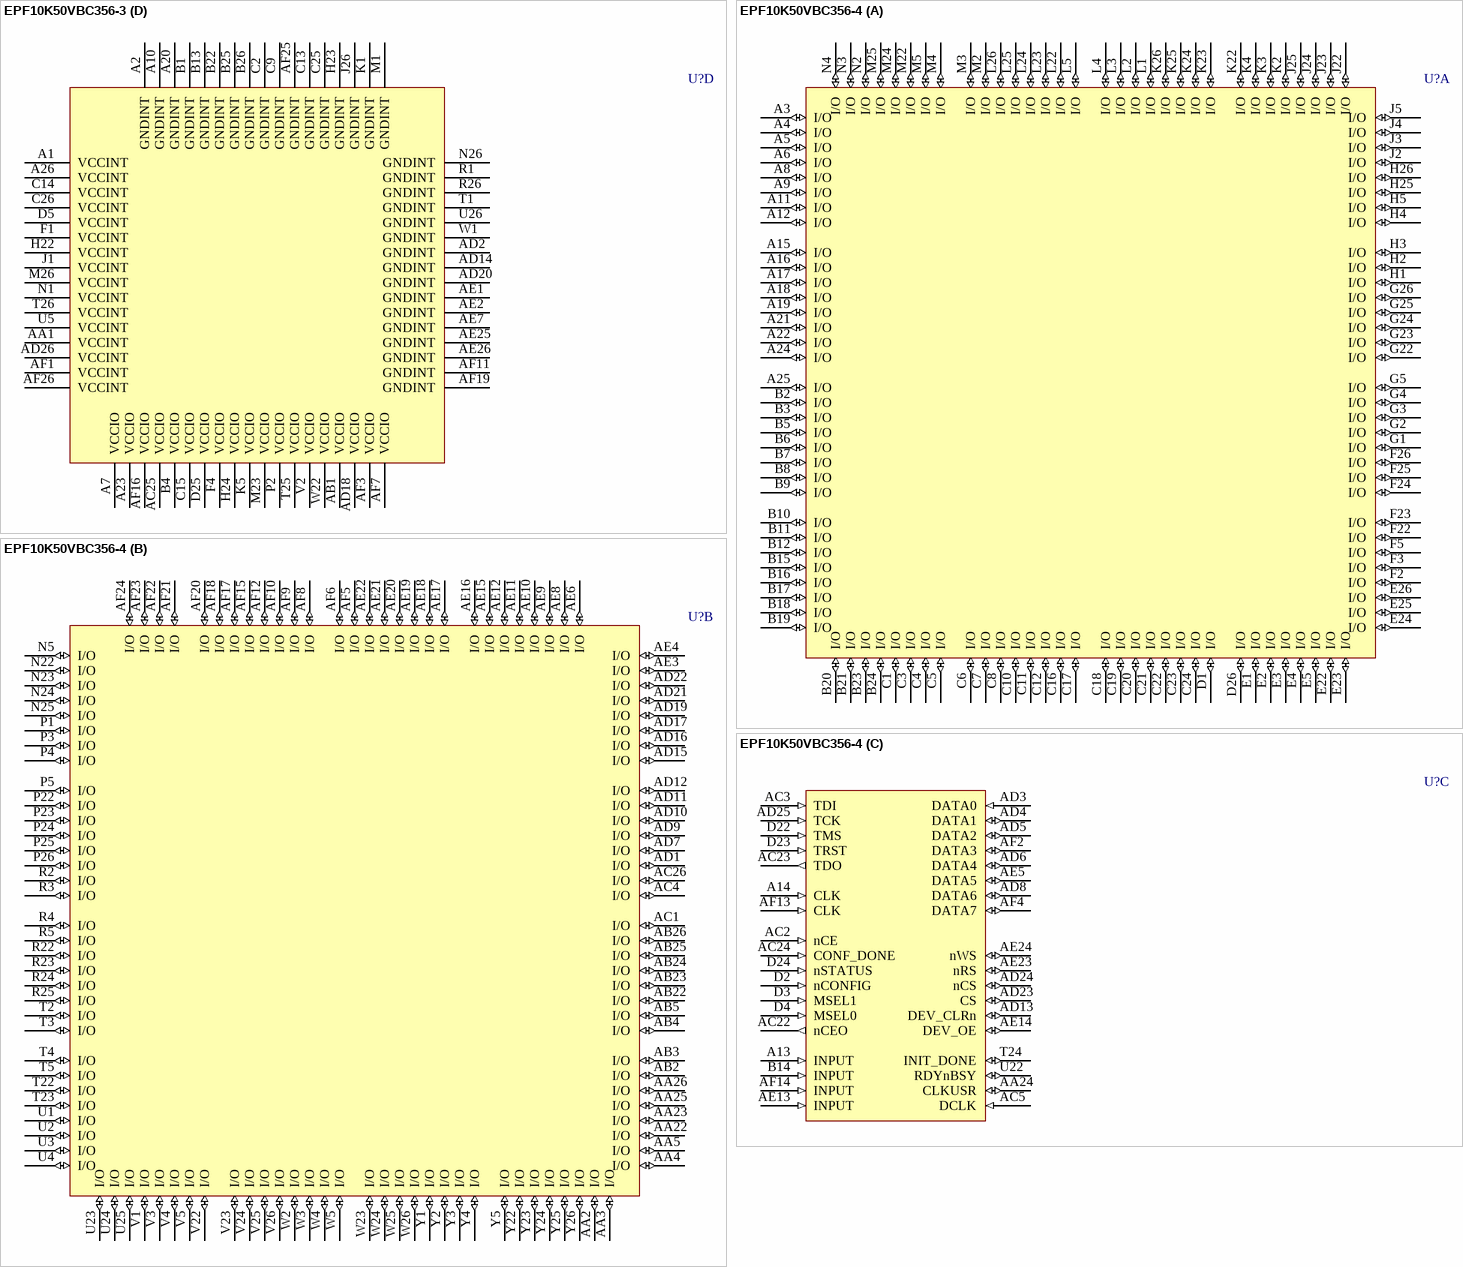
[diagram p161: symbols EPF10K50VBC356-3 to EPF10K50VBC356-4]

## EPF10K50VBC356-3
designator U?
FLEX EPF10K50V 3.3V Embedded PLD, 274 User IO Pins, 356-Pin BGA, Speed Grade 3, Commercial Grade; Published: 17-Jul-2002; LatestRevisionDate: 13-Apr-2006; LatestRevisionNote: IPC-7351 Footprint Added.; DatasheetVersion: ver4.2, Jan-2003; PackageVersion: ver14.2, Oct-2005; PackageReference: BGA356; Publisher: Altium Limited; PackageDescription: 356-Ball Ball Grid Array (BGA356); Supplier 1: Digi-Key; Supplier Part Number 1: 544-1946-ND; Code_JEDEC: MO-192-BAR-2; ComponentLink1Description: Manufacturer Link; ComponentLink1URL: http://www.altera.com/products/devices/flex10k/f10-index.html; ComponentLink2Description: Datasheet; ComponentLink2URL: http://www.altera.com/literature/ds/dsf10k.pdf
footprint BGA356 (BGA, 356-Leads, Body 35x35mm, Pitch 1.27mm)
3D model EPF10K50V-BGA356 (356-Ball Ball Grid Array (BGA356))
part A pins: A3 I/O (io), A4 I/O (io), A5 I/O (io), A6 I/O (io), A8 I/O (io), A9 I/O (io), A11 I/O (io), A12 I/O (io), A15 I/O (io), A16 I/O (io), A17 I/O (io), A18 I/O (io), A19 I/O (io), A21 I/O (io), A22 I/O (io), A24 I/O (io), A25 I/O (io), B2 I/O (io), B3 I/O (io), B5 I/O (io), B6 I/O (io), B7 I/O (io), B8 I/O (io), B9 I/O (io), B10 I/O (io), B11 I/O (io), B12 I/O (io), B15 I/O (io), B16 I/O (io), B17 I/O (io), B18 I/O (io), B19 I/O (io), B20 I/O (io), B21 I/O (io), B23 I/O (io), B24 I/O (io), C1 I/O (io), C3 I/O (io), C4 I/O (io), C5 I/O (io), C6 I/O (io), C7 I/O (io), C8 I/O (io), C10 I/O (io), C11 I/O (io), C12 I/O (io), C16 I/O (io), C17 I/O (io), C18 I/O (io), C19 I/O (io), C20 I/O (io), C21 I/O (io), C22 I/O (io), C23 I/O (io), C24 I/O (io), D1 I/O (io), D26 I/O (io), E1 I/O (io), E2 I/O (io), E3 I/O (io), E4 I/O (io), E5 I/O (io), E22 I/O (io), E23 I/O (io), E24 I/O (io), E25 I/O (io), E26 I/O (io), F2 I/O (io), F3 I/O (io), F5 I/O (io), F22 I/O (io), F23 I/O (io), F24 I/O (io), F25 I/O (io), F26 I/O (io), G1 I/O (io), G2 I/O (io), G3 I/O (io), G4 I/O (io), G5 I/O (io), G22 I/O (io), G23 I/O (io), G24 I/O (io), G25 I/O (io), G26 I/O (io), H1 I/O (io), H2 I/O (io), H3 I/O (io), H4 I/O (io), H5 I/O (io), H25 I/O (io), H26 I/O (io), J2 I/O (io), J3 I/O (io), J4 I/O (io), J5 I/O (io), J22 I/O (io), J23 I/O (io), J24 I/O (io), J25 I/O (io), K2 I/O (io), K3 I/O (io), K4 I/O (io), K22 I/O (io), K23 I/O (io), K24 I/O (io), K25 I/O (io), K26 I/O (io), L1 I/O (io), L2 I/O (io), L3 I/O (io), L4 I/O (io), L5 I/O (io), L22 I/O (io), L23 I/O (io), L24 I/O (io), L25 I/O (io), L26 I/O (io), M2 I/O (io), M3 I/O (io), M4 I/O (io), M5 I/O (io), M22 I/O (io), M24 I/O (io), M25 I/O (io), N2 I/O (io), N3 I/O (io), N4 I/O (io)
part B pins: AA2 I/O (io), AA3 I/O (io), AA4 I/O (io), AA5 I/O (io), AA22 I/O (io), AA23 I/O (io), AA25 I/O (io), AA26 I/O (io), AB2 I/O (io), AB3 I/O (io), AB4 I/O (io), AB5 I/O (io), AB22 I/O (io), AB23 I/O (io), AB24 I/O (io), AB25 I/O (io), AB26 I/O (io), AC1 I/O (io), AC4 I/O (io), AC26 I/O (io), AD1 I/O (io), AD7 I/O (io), AD9 I/O (io), AD10 I/O (io), AD11 I/O (io), AD12 I/O (io), AD15 I/O (io), AD16 I/O (io), AD17 I/O (io), AD19 I/O (io), AD21 I/O (io), AD22 I/O (io), AE3 I/O (io), AE4 I/O (io), AE6 I/O (io), AE8 I/O (io), AE9 I/O (io), AE10 I/O (io), AE11 I/O (io), AE12 I/O (io), AE15 I/O (io), AE16 I/O (io), AE17 I/O (io), AE18 I/O (io), AE19 I/O (io), AE20 I/O (io), AE21 I/O (io), AE22 I/O (io), AF5 I/O (io), AF6 I/O (io), AF8 I/O (io), AF9 I/O (io), AF10 I/O (io), AF12 I/O (io), AF15 I/O (io), AF17 I/O (io), AF18 I/O (io), AF20 I/O (io), AF21 I/O (io), AF22 I/O (io), AF23 I/O (io), AF24 I/O (io), N5 I/O (io), N22 I/O (io), N23 I/O (io), N24 I/O (io), N25 I/O (io), P1 I/O (io), P3 I/O (io), P4 I/O (io), P5 I/O (io), P22 I/O (io), P23 I/O (io), P24 I/O (io), P25 I/O (io), P26 I/O (io), R2 I/O (io), R3 I/O (io), R4 I/O (io), R5 I/O (io), R22 I/O (io), R23 I/O (io), R24 I/O (io), R25 I/O (io), T2 I/O (io), T3 I/O (io), T4 I/O (io), T5 I/O (io), T22 I/O (io), T23 I/O (io), U1 I/O (io), U2 I/O (io), U3 I/O (io), U4 I/O (io), U23 I/O (io), U24 I/O (io), U25 I/O (io), V1 I/O (io), V3 I/O (io), V4 I/O (io), V5 I/O (io), V22 I/O (io), V23 I/O (io), V24 I/O (io), V25 I/O (io), V26 I/O (io), W2 I/O (io), W3 I/O (io), W4 I/O (io), W5 I/O (io), W23 I/O (io), W24 I/O (io), W25 I/O (io), W26 I/O (io), Y1 I/O (io), Y2 I/O (io), Y3 I/O (io), Y4 I/O (io), Y5 I/O (io), Y22 I/O (io), Y23 I/O (io), Y24 I/O (io), Y25 I/O (io), Y26 I/O (io)
part C pins: A13 INPUT (in), A14 CLK (in), AA24 CLKUSR (io), AC2 nCE (in), AC3 TDI (in), AC5 DCLK (in), AC22 nCEO (out), AC23 TDO (out), AC24 CONF_DONE (in), AD3 DATA0 (in), AD4 DATA1 (io), AD5 DATA2 (io), AD6 DATA4 (io), AD8 DATA6 (io), AD13 DEV_CLRn (io), AD23 CS (io), AD24 nCS (io), AD25 TCK (in), AE5 DATA5 (io), AE13 INPUT (in), AE14 DEV_OE (io), AE23 nRS (io), AE24 nWS (io), AF2 DATA3 (io), AF4 DATA7 (io), AF13 CLK (in), AF14 INPUT (in), B14 INPUT (in), D2 nCONFIG (in), D3 MSEL1 (in), D4 MSEL0 (in), D22 TMS (in), D23 TRST (in), D24 nSTATUS (in), T24 INIT_DONE (io), U22 RDYnBSY (io)
part D pins: A1 VCCINT (power), A2 GNDINT (power), A7 VCCIO (power), A10 GNDINT (power), A20 GNDINT (power), A23 VCCIO (power), A26 VCCINT (power), AA1 VCCINT (power), AB1 VCCIO (power), AC25 VCCIO (power), AD2 GNDINT (power), AD14 GNDINT (power), AD18 VCCIO (power), AD20 GNDINT (power), AD26 VCCINT (power), AE1 GNDINT (power), AE2 GNDINT (power), AE7 GNDINT (power), AE25 GNDINT (power), AE26 GNDINT (power), AF1 VCCINT (power), AF3 VCCIO (power), AF7 VCCIO (power), AF11 GNDINT (power), AF16 VCCIO (power), AF19 GNDINT (power), AF25 GNDINT (power), AF26 VCCINT (power), B1 GNDINT (power), B4 VCCIO (power), B13 GNDINT (power), B22 GNDINT (power), B25 GNDINT (power), B26 GNDINT (power), C2 GNDINT (power), C9 GNDINT (power), C13 GNDINT (power), C14 VCCINT (power), C15 VCCIO (power), C25 GNDINT (power), C26 VCCINT (power), D5 VCCINT (power), D25 VCCIO (power), F1 VCCINT (power), F4 VCCIO (power), H22 VCCINT (power), H23 GNDINT (power), H24 VCCIO (power), J1 VCCINT (power), J26 GNDINT (power), K1 GNDINT (power), K5 VCCIO (power), M1 GNDINT (power), M23 VCCIO (power), M26 VCCINT (power), N1 VCCINT (power), N26 GNDINT (power), P2 VCCIO (power), R1 GNDINT (power), R26 GNDINT (power), T1 GNDINT (power), T25 VCCIO (power), T26 VCCINT (power), U5 VCCINT (power), U26 GNDINT (power), V2 VCCIO (power), W1 GNDINT (power), W22 VCCIO (power)

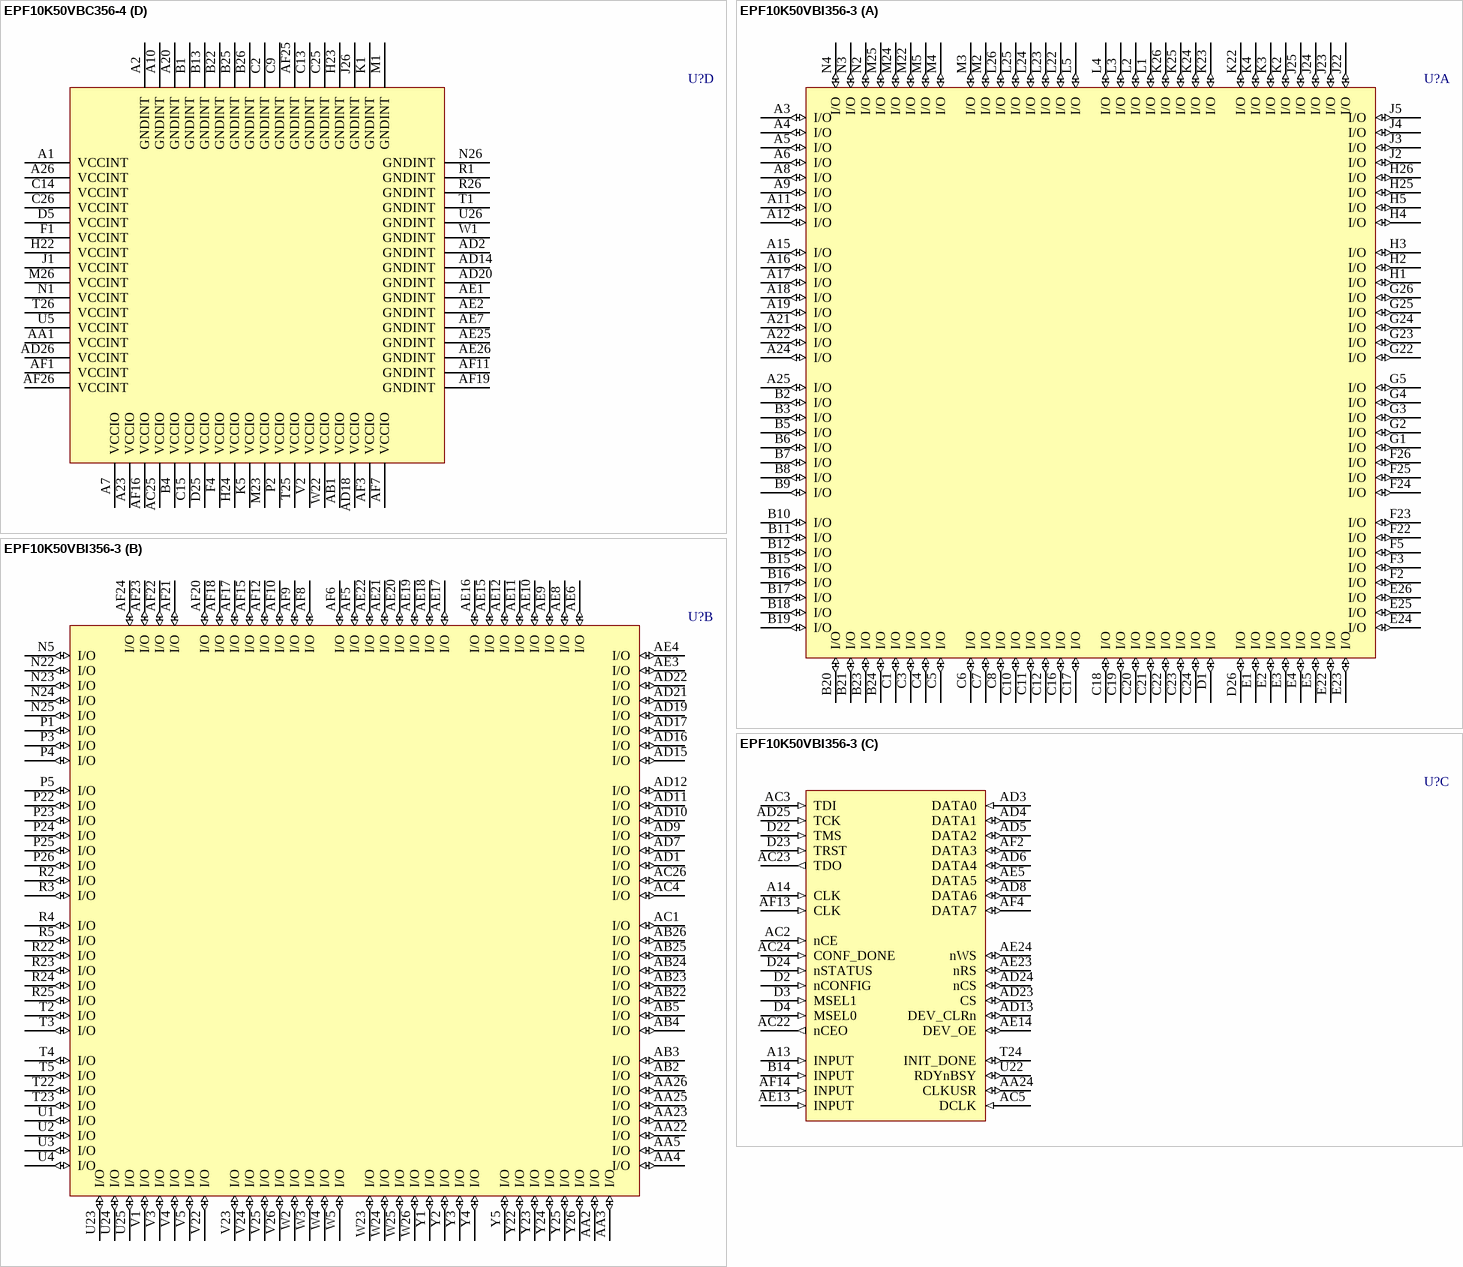
[diagram p162: symbols EPF10K50VBC356-4 to EPF10K50VBI356-3]

## EPF10K50VBC356-4
designator U?
FLEX EPF10K50V 3.3V Embedded PLD, 274 User IO Pins, 356-Pin BGA, Speed Grade 4, Commercial Grade; Published: 17-Jul-2002; LatestRevisionDate: 13-Apr-2006; LatestRevisionNote: IPC-7351 Footprint Added.; DatasheetVersion: ver4.2, Jan-2003; PackageVersion: ver14.2, Oct-2005; PackageReference: BGA356; Publisher: Altium Limited; PackageDescription: 356-Ball Ball Grid Array (BGA356); Supplier 1: Digi-Key; Supplier Part Number 1: EPF10K50VBC356-4-ND; Code_JEDEC: MO-192-BAR-2; ComponentLink1Description: Manufacturer Link; ComponentLink1URL: http://www.altera.com/products/devices/flex10k/f10-index.html; ComponentLink2Description: Datasheet; ComponentLink2URL: http://www.altera.com/literature/ds/dsf10k.pdf
footprint BGA356 (BGA, 356-Leads, Body 35x35mm, Pitch 1.27mm)
3D model EPF10K50V-BGA356 (356-Ball Ball Grid Array (BGA356))
part A pins: A3 I/O (io), A4 I/O (io), A5 I/O (io), A6 I/O (io), A8 I/O (io), A9 I/O (io), A11 I/O (io), A12 I/O (io), A15 I/O (io), A16 I/O (io), A17 I/O (io), A18 I/O (io), A19 I/O (io), A21 I/O (io), A22 I/O (io), A24 I/O (io), A25 I/O (io), B2 I/O (io), B3 I/O (io), B5 I/O (io), B6 I/O (io), B7 I/O (io), B8 I/O (io), B9 I/O (io), B10 I/O (io), B11 I/O (io), B12 I/O (io), B15 I/O (io), B16 I/O (io), B17 I/O (io), B18 I/O (io), B19 I/O (io), B20 I/O (io), B21 I/O (io), B23 I/O (io), B24 I/O (io), C1 I/O (io), C3 I/O (io), C4 I/O (io), C5 I/O (io), C6 I/O (io), C7 I/O (io), C8 I/O (io), C10 I/O (io), C11 I/O (io), C12 I/O (io), C16 I/O (io), C17 I/O (io), C18 I/O (io), C19 I/O (io), C20 I/O (io), C21 I/O (io), C22 I/O (io), C23 I/O (io), C24 I/O (io), D1 I/O (io), D26 I/O (io), E1 I/O (io), E2 I/O (io), E3 I/O (io), E4 I/O (io), E5 I/O (io), E22 I/O (io), E23 I/O (io), E24 I/O (io), E25 I/O (io), E26 I/O (io), F2 I/O (io), F3 I/O (io), F5 I/O (io), F22 I/O (io), F23 I/O (io), F24 I/O (io), F25 I/O (io), F26 I/O (io), G1 I/O (io), G2 I/O (io), G3 I/O (io), G4 I/O (io), G5 I/O (io), G22 I/O (io), G23 I/O (io), G24 I/O (io), G25 I/O (io), G26 I/O (io), H1 I/O (io), H2 I/O (io), H3 I/O (io), H4 I/O (io), H5 I/O (io), H25 I/O (io), H26 I/O (io), J2 I/O (io), J3 I/O (io), J4 I/O (io), J5 I/O (io), J22 I/O (io), J23 I/O (io), J24 I/O (io), J25 I/O (io), K2 I/O (io), K3 I/O (io), K4 I/O (io), K22 I/O (io), K23 I/O (io), K24 I/O (io), K25 I/O (io), K26 I/O (io), L1 I/O (io), L2 I/O (io), L3 I/O (io), L4 I/O (io), L5 I/O (io), L22 I/O (io), L23 I/O (io), L24 I/O (io), L25 I/O (io), L26 I/O (io), M2 I/O (io), M3 I/O (io), M4 I/O (io), M5 I/O (io), M22 I/O (io), M24 I/O (io), M25 I/O (io), N2 I/O (io), N3 I/O (io), N4 I/O (io)
part B pins: AA2 I/O (io), AA3 I/O (io), AA4 I/O (io), AA5 I/O (io), AA22 I/O (io), AA23 I/O (io), AA25 I/O (io), AA26 I/O (io), AB2 I/O (io), AB3 I/O (io), AB4 I/O (io), AB5 I/O (io), AB22 I/O (io), AB23 I/O (io), AB24 I/O (io), AB25 I/O (io), AB26 I/O (io), AC1 I/O (io), AC4 I/O (io), AC26 I/O (io), AD1 I/O (io), AD7 I/O (io), AD9 I/O (io), AD10 I/O (io), AD11 I/O (io), AD12 I/O (io), AD15 I/O (io), AD16 I/O (io), AD17 I/O (io), AD19 I/O (io), AD21 I/O (io), AD22 I/O (io), AE3 I/O (io), AE4 I/O (io), AE6 I/O (io), AE8 I/O (io), AE9 I/O (io), AE10 I/O (io), AE11 I/O (io), AE12 I/O (io), AE15 I/O (io), AE16 I/O (io), AE17 I/O (io), AE18 I/O (io), AE19 I/O (io), AE20 I/O (io), AE21 I/O (io), AE22 I/O (io), AF5 I/O (io), AF6 I/O (io), AF8 I/O (io), AF9 I/O (io), AF10 I/O (io), AF12 I/O (io), AF15 I/O (io), AF17 I/O (io), AF18 I/O (io), AF20 I/O (io), AF21 I/O (io), AF22 I/O (io), AF23 I/O (io), AF24 I/O (io), N5 I/O (io), N22 I/O (io), N23 I/O (io), N24 I/O (io), N25 I/O (io), P1 I/O (io), P3 I/O (io), P4 I/O (io), P5 I/O (io), P22 I/O (io), P23 I/O (io), P24 I/O (io), P25 I/O (io), P26 I/O (io), R2 I/O (io), R3 I/O (io), R4 I/O (io), R5 I/O (io), R22 I/O (io), R23 I/O (io), R24 I/O (io), R25 I/O (io), T2 I/O (io), T3 I/O (io), T4 I/O (io), T5 I/O (io), T22 I/O (io), T23 I/O (io), U1 I/O (io), U2 I/O (io), U3 I/O (io), U4 I/O (io), U23 I/O (io), U24 I/O (io), U25 I/O (io), V1 I/O (io), V3 I/O (io), V4 I/O (io), V5 I/O (io), V22 I/O (io), V23 I/O (io), V24 I/O (io), V25 I/O (io), V26 I/O (io), W2 I/O (io), W3 I/O (io), W4 I/O (io), W5 I/O (io), W23 I/O (io), W24 I/O (io), W25 I/O (io), W26 I/O (io), Y1 I/O (io), Y2 I/O (io), Y3 I/O (io), Y4 I/O (io), Y5 I/O (io), Y22 I/O (io), Y23 I/O (io), Y24 I/O (io), Y25 I/O (io), Y26 I/O (io)
part C pins: A13 INPUT (in), A14 CLK (in), AA24 CLKUSR (io), AC2 nCE (in), AC3 TDI (in), AC5 DCLK (in), AC22 nCEO (out), AC23 TDO (out), AC24 CONF_DONE (in), AD3 DATA0 (in), AD4 DATA1 (io), AD5 DATA2 (io), AD6 DATA4 (io), AD8 DATA6 (io), AD13 DEV_CLRn (io), AD23 CS (io), AD24 nCS (io), AD25 TCK (in), AE5 DATA5 (io), AE13 INPUT (in), AE14 DEV_OE (io), AE23 nRS (io), AE24 nWS (io), AF2 DATA3 (io), AF4 DATA7 (io), AF13 CLK (in), AF14 INPUT (in), B14 INPUT (in), D2 nCONFIG (in), D3 MSEL1 (in), D4 MSEL0 (in), D22 TMS (in), D23 TRST (in), D24 nSTATUS (in), T24 INIT_DONE (io), U22 RDYnBSY (io)
part D pins: A1 VCCINT (power), A2 GNDINT (power), A7 VCCIO (power), A10 GNDINT (power), A20 GNDINT (power), A23 VCCIO (power), A26 VCCINT (power), AA1 VCCINT (power), AB1 VCCIO (power), AC25 VCCIO (power), AD2 GNDINT (power), AD14 GNDINT (power), AD18 VCCIO (power), AD20 GNDINT (power), AD26 VCCINT (power), AE1 GNDINT (power), AE2 GNDINT (power), AE7 GNDINT (power), AE25 GNDINT (power), AE26 GNDINT (power), AF1 VCCINT (power), AF3 VCCIO (power), AF7 VCCIO (power), AF11 GNDINT (power), AF16 VCCIO (power), AF19 GNDINT (power), AF25 GNDINT (power), AF26 VCCINT (power), B1 GNDINT (power), B4 VCCIO (power), B13 GNDINT (power), B22 GNDINT (power), B25 GNDINT (power), B26 GNDINT (power), C2 GNDINT (power), C9 GNDINT (power), C13 GNDINT (power), C14 VCCINT (power), C15 VCCIO (power), C25 GNDINT (power), C26 VCCINT (power), D5 VCCINT (power), D25 VCCIO (power), F1 VCCINT (power), F4 VCCIO (power), H22 VCCINT (power), H23 GNDINT (power), H24 VCCIO (power), J1 VCCINT (power), J26 GNDINT (power), K1 GNDINT (power), K5 VCCIO (power), M1 GNDINT (power), M23 VCCIO (power), M26 VCCINT (power), N1 VCCINT (power), N26 GNDINT (power), P2 VCCIO (power), R1 GNDINT (power), R26 GNDINT (power), T1 GNDINT (power), T25 VCCIO (power), T26 VCCINT (power), U5 VCCINT (power), U26 GNDINT (power), V2 VCCIO (power), W1 GNDINT (power), W22 VCCIO (power)

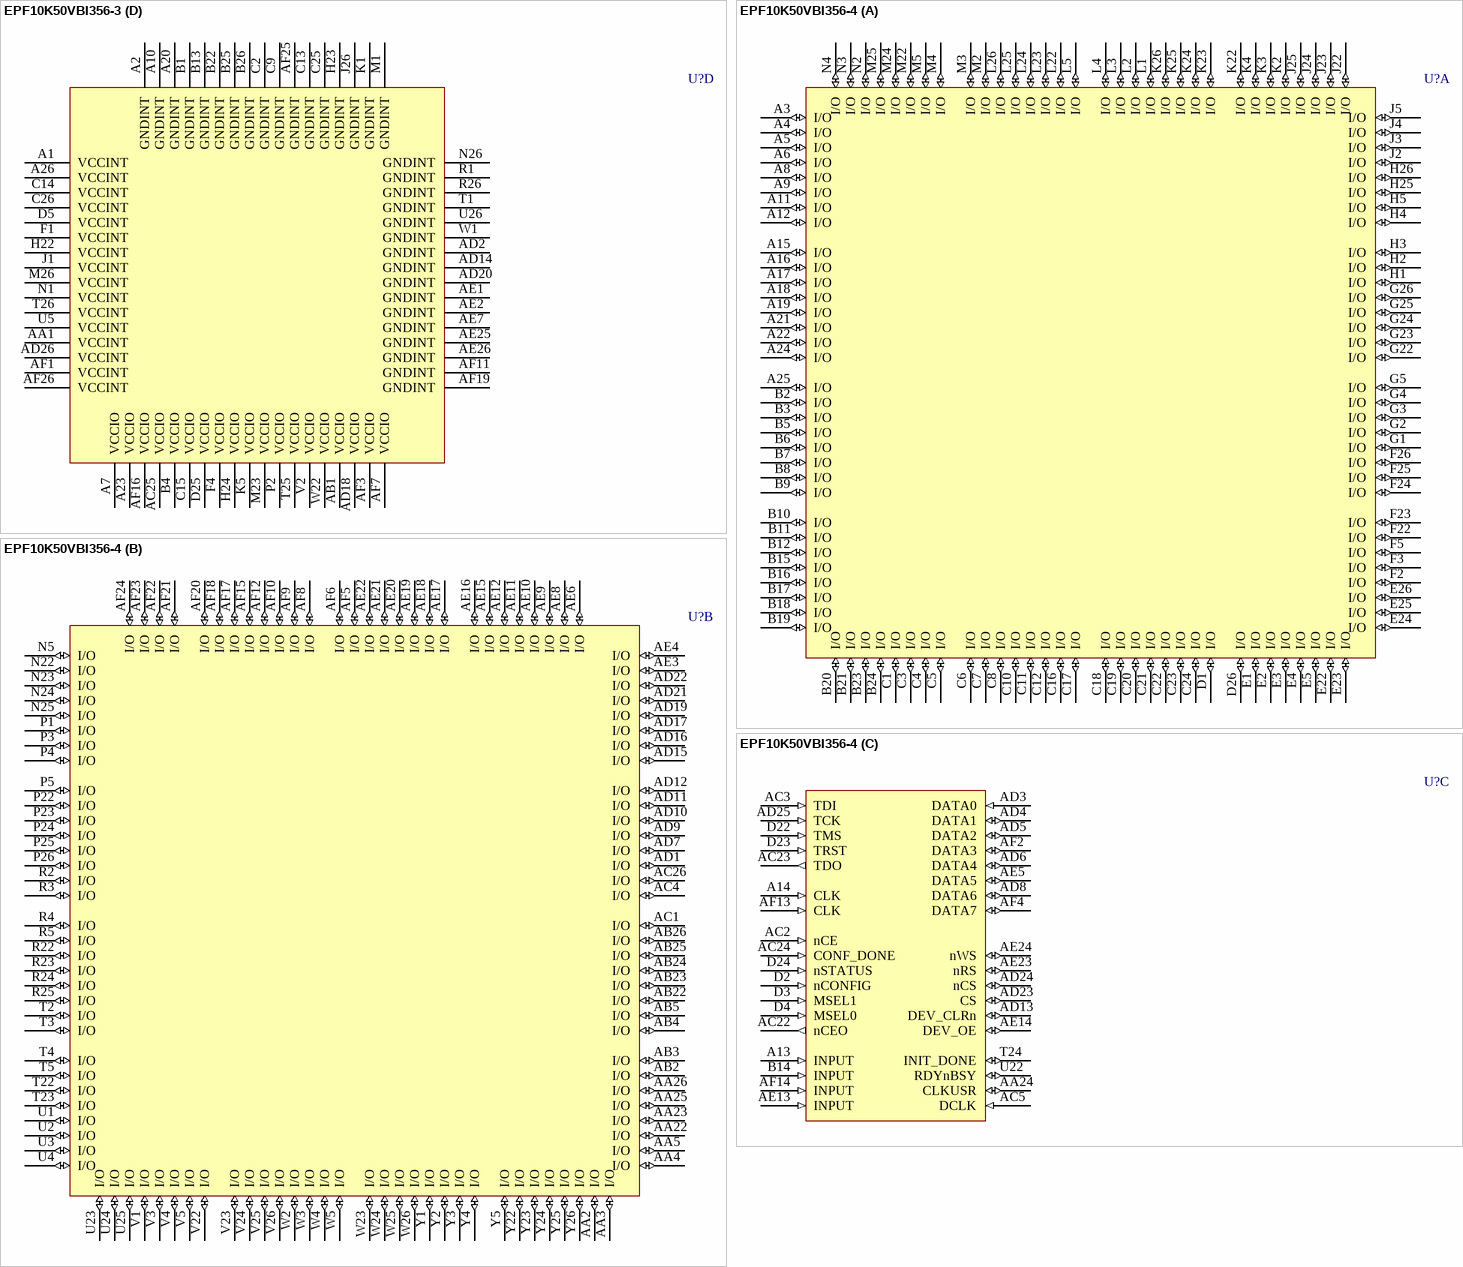
[diagram p163: symbols EPF10K50VBI356-3 to EPF10K50VBI356-4]

## EPF10K50VBI356-3
designator U?
FLEX EPF10K50V 3.3V Embedded PLD, 274 User IO Pins, 356-Pin BGA, Speed Grade 3, Industrial Grade; Published: 17-Jul-2002; LatestRevisionDate: 13-Apr-2006; LatestRevisionNote: IPC-7351 Footprint Added.; DatasheetVersion: ver4.2, Jan-2003; PackageVersion: ver14.2, Oct-2005; PackageReference: BGA356; Publisher: Altium Limited; PackageDescription: 356-Ball Ball Grid Array (BGA356); Code_JEDEC: MO-192-BAR-2; ComponentLink1Description: Manufacturer Link; ComponentLink1URL: http://www.altera.com/products/devices/flex10k/f10-index.html; ComponentLink2Description: Datasheet; ComponentLink2URL: http://www.altera.com/literature/ds/dsf10k.pdf
footprint BGA356 (BGA, 356-Leads, Body 35x35mm, Pitch 1.27mm)
3D model EPF10K50V-BGA356 (356-Ball Ball Grid Array (BGA356))
part A pins: A3 I/O (io), A4 I/O (io), A5 I/O (io), A6 I/O (io), A8 I/O (io), A9 I/O (io), A11 I/O (io), A12 I/O (io), A15 I/O (io), A16 I/O (io), A17 I/O (io), A18 I/O (io), A19 I/O (io), A21 I/O (io), A22 I/O (io), A24 I/O (io), A25 I/O (io), B2 I/O (io), B3 I/O (io), B5 I/O (io), B6 I/O (io), B7 I/O (io), B8 I/O (io), B9 I/O (io), B10 I/O (io), B11 I/O (io), B12 I/O (io), B15 I/O (io), B16 I/O (io), B17 I/O (io), B18 I/O (io), B19 I/O (io), B20 I/O (io), B21 I/O (io), B23 I/O (io), B24 I/O (io), C1 I/O (io), C3 I/O (io), C4 I/O (io), C5 I/O (io), C6 I/O (io), C7 I/O (io), C8 I/O (io), C10 I/O (io), C11 I/O (io), C12 I/O (io), C16 I/O (io), C17 I/O (io), C18 I/O (io), C19 I/O (io), C20 I/O (io), C21 I/O (io), C22 I/O (io), C23 I/O (io), C24 I/O (io), D1 I/O (io), D26 I/O (io), E1 I/O (io), E2 I/O (io), E3 I/O (io), E4 I/O (io), E5 I/O (io), E22 I/O (io), E23 I/O (io), E24 I/O (io), E25 I/O (io), E26 I/O (io), F2 I/O (io), F3 I/O (io), F5 I/O (io), F22 I/O (io), F23 I/O (io), F24 I/O (io), F25 I/O (io), F26 I/O (io), G1 I/O (io), G2 I/O (io), G3 I/O (io), G4 I/O (io), G5 I/O (io), G22 I/O (io), G23 I/O (io), G24 I/O (io), G25 I/O (io), G26 I/O (io), H1 I/O (io), H2 I/O (io), H3 I/O (io), H4 I/O (io), H5 I/O (io), H25 I/O (io), H26 I/O (io), J2 I/O (io), J3 I/O (io), J4 I/O (io), J5 I/O (io), J22 I/O (io), J23 I/O (io), J24 I/O (io), J25 I/O (io), K2 I/O (io), K3 I/O (io), K4 I/O (io), K22 I/O (io), K23 I/O (io), K24 I/O (io), K25 I/O (io), K26 I/O (io), L1 I/O (io), L2 I/O (io), L3 I/O (io), L4 I/O (io), L5 I/O (io), L22 I/O (io), L23 I/O (io), L24 I/O (io), L25 I/O (io), L26 I/O (io), M2 I/O (io), M3 I/O (io), M4 I/O (io), M5 I/O (io), M22 I/O (io), M24 I/O (io), M25 I/O (io), N2 I/O (io), N3 I/O (io), N4 I/O (io)
part B pins: AA2 I/O (io), AA3 I/O (io), AA4 I/O (io), AA5 I/O (io), AA22 I/O (io), AA23 I/O (io), AA25 I/O (io), AA26 I/O (io), AB2 I/O (io), AB3 I/O (io), AB4 I/O (io), AB5 I/O (io), AB22 I/O (io), AB23 I/O (io), AB24 I/O (io), AB25 I/O (io), AB26 I/O (io), AC1 I/O (io), AC4 I/O (io), AC26 I/O (io), AD1 I/O (io), AD7 I/O (io), AD9 I/O (io), AD10 I/O (io), AD11 I/O (io), AD12 I/O (io), AD15 I/O (io), AD16 I/O (io), AD17 I/O (io), AD19 I/O (io), AD21 I/O (io), AD22 I/O (io), AE3 I/O (io), AE4 I/O (io), AE6 I/O (io), AE8 I/O (io), AE9 I/O (io), AE10 I/O (io), AE11 I/O (io), AE12 I/O (io), AE15 I/O (io), AE16 I/O (io), AE17 I/O (io), AE18 I/O (io), AE19 I/O (io), AE20 I/O (io), AE21 I/O (io), AE22 I/O (io), AF5 I/O (io), AF6 I/O (io), AF8 I/O (io), AF9 I/O (io), AF10 I/O (io), AF12 I/O (io), AF15 I/O (io), AF17 I/O (io), AF18 I/O (io), AF20 I/O (io), AF21 I/O (io), AF22 I/O (io), AF23 I/O (io), AF24 I/O (io), N5 I/O (io), N22 I/O (io), N23 I/O (io), N24 I/O (io), N25 I/O (io), P1 I/O (io), P3 I/O (io), P4 I/O (io), P5 I/O (io), P22 I/O (io), P23 I/O (io), P24 I/O (io), P25 I/O (io), P26 I/O (io), R2 I/O (io), R3 I/O (io), R4 I/O (io), R5 I/O (io), R22 I/O (io), R23 I/O (io), R24 I/O (io), R25 I/O (io), T2 I/O (io), T3 I/O (io), T4 I/O (io), T5 I/O (io), T22 I/O (io), T23 I/O (io), U1 I/O (io), U2 I/O (io), U3 I/O (io), U4 I/O (io), U23 I/O (io), U24 I/O (io), U25 I/O (io), V1 I/O (io), V3 I/O (io), V4 I/O (io), V5 I/O (io), V22 I/O (io), V23 I/O (io), V24 I/O (io), V25 I/O (io), V26 I/O (io), W2 I/O (io), W3 I/O (io), W4 I/O (io), W5 I/O (io), W23 I/O (io), W24 I/O (io), W25 I/O (io), W26 I/O (io), Y1 I/O (io), Y2 I/O (io), Y3 I/O (io), Y4 I/O (io), Y5 I/O (io), Y22 I/O (io), Y23 I/O (io), Y24 I/O (io), Y25 I/O (io), Y26 I/O (io)
part C pins: A13 INPUT (in), A14 CLK (in), AA24 CLKUSR (io), AC2 nCE (in), AC3 TDI (in), AC5 DCLK (in), AC22 nCEO (out), AC23 TDO (out), AC24 CONF_DONE (in), AD3 DATA0 (in), AD4 DATA1 (io), AD5 DATA2 (io), AD6 DATA4 (io), AD8 DATA6 (io), AD13 DEV_CLRn (io), AD23 CS (io), AD24 nCS (io), AD25 TCK (in), AE5 DATA5 (io), AE13 INPUT (in), AE14 DEV_OE (io), AE23 nRS (io), AE24 nWS (io), AF2 DATA3 (io), AF4 DATA7 (io), AF13 CLK (in), AF14 INPUT (in), B14 INPUT (in), D2 nCONFIG (in), D3 MSEL1 (in), D4 MSEL0 (in), D22 TMS (in), D23 TRST (in), D24 nSTATUS (in), T24 INIT_DONE (io), U22 RDYnBSY (io)
part D pins: A1 VCCINT (power), A2 GNDINT (power), A7 VCCIO (power), A10 GNDINT (power), A20 GNDINT (power), A23 VCCIO (power), A26 VCCINT (power), AA1 VCCINT (power), AB1 VCCIO (power), AC25 VCCIO (power), AD2 GNDINT (power), AD14 GNDINT (power), AD18 VCCIO (power), AD20 GNDINT (power), AD26 VCCINT (power), AE1 GNDINT (power), AE2 GNDINT (power), AE7 GNDINT (power), AE25 GNDINT (power), AE26 GNDINT (power), AF1 VCCINT (power), AF3 VCCIO (power), AF7 VCCIO (power), AF11 GNDINT (power), AF16 VCCIO (power), AF19 GNDINT (power), AF25 GNDINT (power), AF26 VCCINT (power), B1 GNDINT (power), B4 VCCIO (power), B13 GNDINT (power), B22 GNDINT (power), B25 GNDINT (power), B26 GNDINT (power), C2 GNDINT (power), C9 GNDINT (power), C13 GNDINT (power), C14 VCCINT (power), C15 VCCIO (power), C25 GNDINT (power), C26 VCCINT (power), D5 VCCINT (power), D25 VCCIO (power), F1 VCCINT (power), F4 VCCIO (power), H22 VCCINT (power), H23 GNDINT (power), H24 VCCIO (power), J1 VCCINT (power), J26 GNDINT (power), K1 GNDINT (power), K5 VCCIO (power), M1 GNDINT (power), M23 VCCIO (power), M26 VCCINT (power), N1 VCCINT (power), N26 GNDINT (power), P2 VCCIO (power), R1 GNDINT (power), R26 GNDINT (power), T1 GNDINT (power), T25 VCCIO (power), T26 VCCINT (power), U5 VCCINT (power), U26 GNDINT (power), V2 VCCIO (power), W1 GNDINT (power), W22 VCCIO (power)

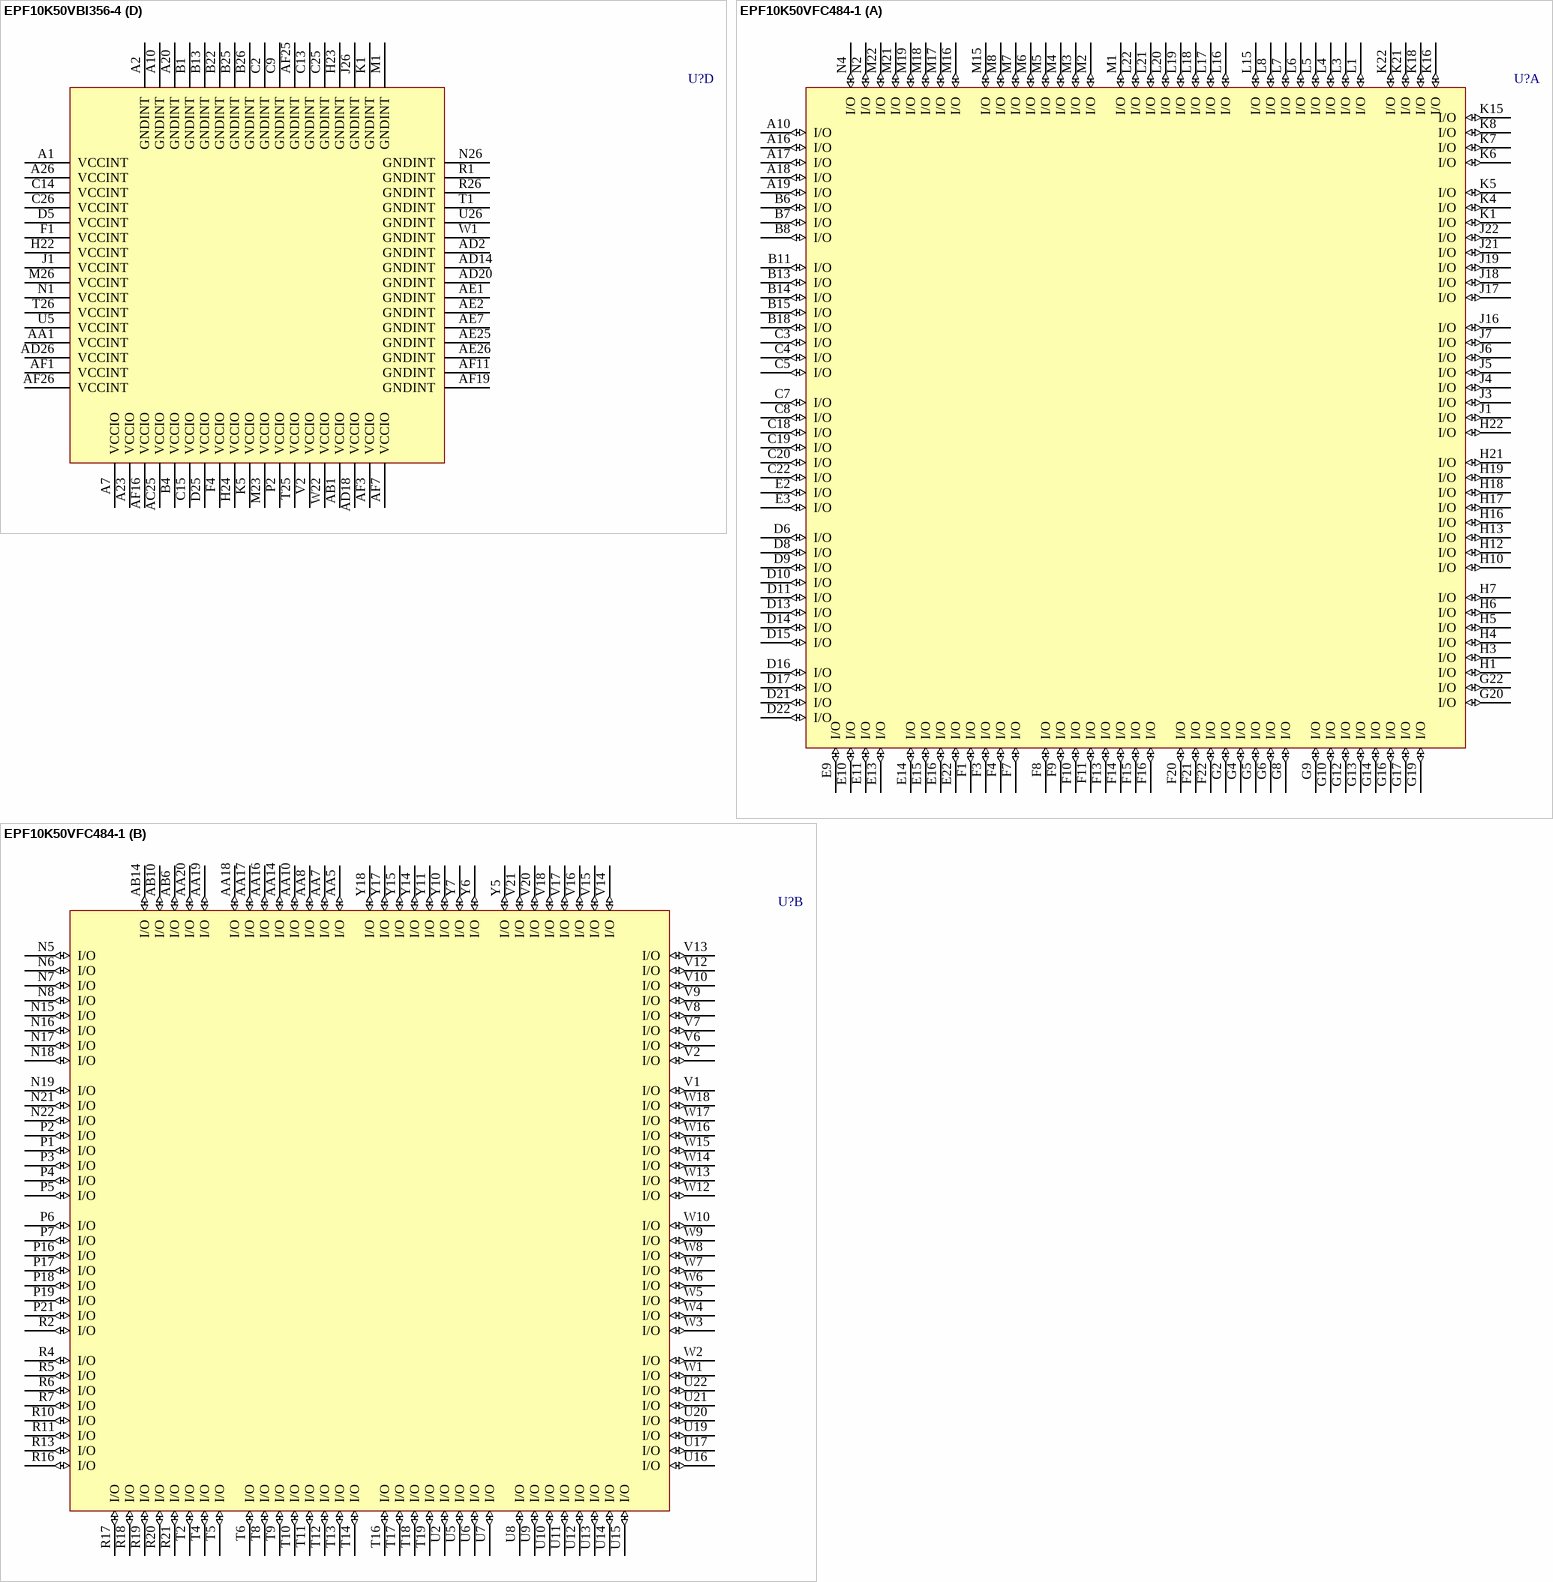
[diagram p164: symbols EPF10K50VBI356-4 to EPF10K50VFC484-1]